# Altium integrated library Maxim Microcontroller.IntLib: 169 symbols (part 1 of 6)
Pins are listed as number, name and electrical type; pins without a type are passive.

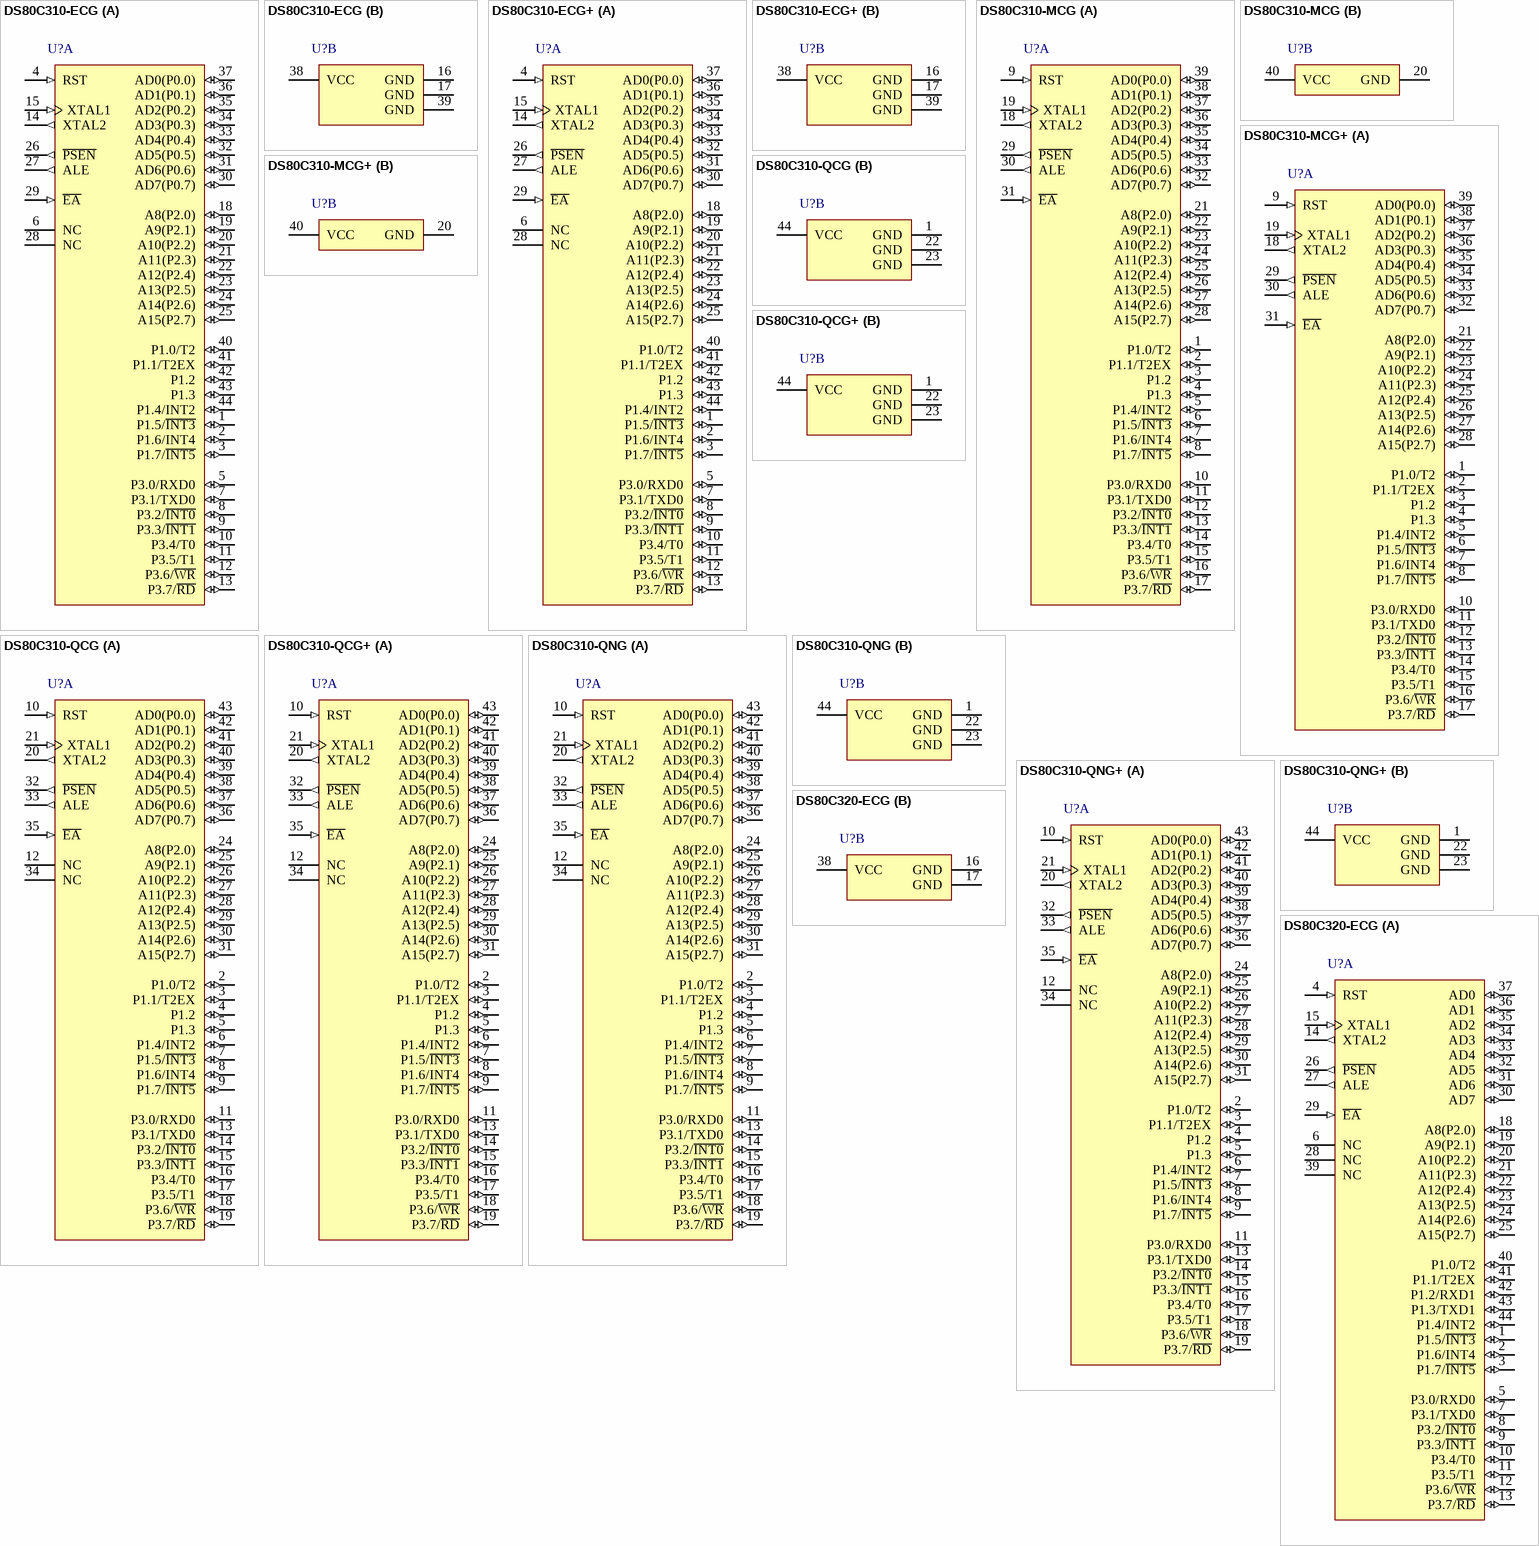
[diagram p0: symbols DS80C310-ECG to DS80C320-ECG]

## DS80C310-ECG
designator U?
8-bit High-Speed Microcontroller, 25 MHz Max. Clock Speed, 44-pin TQFP, 0° to + 70° C; DatasheetVersion: 1/08/2009; PackageVersion: revB, 2010; PackageReference: C44-2; PackageDescription: 44-Pin Thin Quad Flatpack, 10 x 10 x 1.0 mm Body, 0.8 mm Pitch, TQFP; ComponentLink1Description: Manufacturer URL; ComponentLink1URL: www.maxim-ic.com; ComponentLink2Description: Datasheet; ComponentLink2URL: http://datasheets.maxim-ic.com/en/ds/DS80C310.pdf
footprint C44-2_N (Thin QFP, 44-Leads, Body 10x10mm, Pitch 0.8mm, IPC Medium Density)
footprint C44-2_L (Thin QFP, 44-Leads, Body 10x10mm, Pitch 0.8mm, IPC High Density)
footprint C44-2_M (Thin QFP, 44-Leads, Body 10x10mm, Pitch 0.8mm, IPC Low Density)
part A pins: 1 P1.5/~{INT3} (io), 2 P1.6/INT4 (io), 3 P1.7/~{INT5} (io), 4 RST (in), 5 P3.0/RXD0 (io), 6 NC, 7 P3.1/TXD0 (io), 8 P3.2/~{INT0} (io), 9 P3.3/~{INT1} (io), 10 P3.4/T0 (io), 11 P3.5/T1 (io), 12 P3.6/~{WR} (io), 13 P3.7/~{RD} (io), 14 XTAL2 (out), 15 XTAL1 (in), 18 A8(P2.0) (io), 19 A9(P2.1) (io), 20 A10(P2.2) (io), 21 A11(P2.3) (io), 22 A12(P2.4) (io), 23 A13(P2.5) (io), 24 A14(P2.6) (io), 25 A15(P2.7) (io), 26 ~{PSEN} (out), 27 ALE (out), 28 NC, 29 ~{EA} (in), 30 AD7(P0.7) (io), 31 AD6(P0.6) (io), 32 AD5(P0.5) (io), 33 AD4(P0.4) (io), 34 AD3(P0.3) (io), 35 AD2(P0.2) (io), 36 AD1(P0.1) (io), 37 AD0(P0.0) (io), 40 P1.0/T2 (io), 41 P1.1/T2EX (io), 42 P1.2 (io), 43 P1.3 (io), 44 P1.4/INT2 (io)
part B pins: 16 GND (power), 17 GND (power), 38 VCC (power), 39 GND (power)

## DS80C310-ECG+
designator U?
8-bit High-Speed Microcontroller, 25 MHz Max. Clock Speed, 44-pin TQFP, 0° to + 70° C, Pb-Free; DatasheetVersion: 1/08/2009; PackageVersion: revB, 2010; PackageReference: C44+2; PackageDescription: 44-Pin Thin Quad Flatpack, 10 x 10 x 1.0 mm Body, 0.8 mm Pitch, TQFP, Pb-Free; ComponentLink1Description: Manufacturer URL; ComponentLink1URL: www.maxim-ic.com; ComponentLink2Description: Datasheet; ComponentLink2URL: http://datasheets.maxim-ic.com/en/ds/DS80C310.pdf
footprint C44+2_N (Thin QFP, 44-Leads, Body 10x10mm, Pitch 0.8mm, IPC Medium Density)
footprint C44+2_L (Thin QFP, 44-Leads, Body 10x10mm, Pitch 0.8mm, IPC High Density)
footprint C44+2_M (Thin QFP, 44-Leads, Body 10x10mm, Pitch 0.8mm, IPC Low Density)
part A pins: 1 P1.5/~{INT3} (io), 2 P1.6/INT4 (io), 3 P1.7/~{INT5} (io), 4 RST (in), 5 P3.0/RXD0 (io), 6 NC, 7 P3.1/TXD0 (io), 8 P3.2/~{INT0} (io), 9 P3.3/~{INT1} (io), 10 P3.4/T0 (io), 11 P3.5/T1 (io), 12 P3.6/~{WR} (io), 13 P3.7/~{RD} (io), 14 XTAL2 (out), 15 XTAL1 (in), 18 A8(P2.0) (io), 19 A9(P2.1) (io), 20 A10(P2.2) (io), 21 A11(P2.3) (io), 22 A12(P2.4) (io), 23 A13(P2.5) (io), 24 A14(P2.6) (io), 25 A15(P2.7) (io), 26 ~{PSEN} (out), 27 ALE (out), 28 NC, 29 ~{EA} (in), 30 AD7(P0.7) (io), 31 AD6(P0.6) (io), 32 AD5(P0.5) (io), 33 AD4(P0.4) (io), 34 AD3(P0.3) (io), 35 AD2(P0.2) (io), 36 AD1(P0.1) (io), 37 AD0(P0.0) (io), 40 P1.0/T2 (io), 41 P1.1/T2EX (io), 42 P1.2 (io), 43 P1.3 (io), 44 P1.4/INT2 (io)
part B pins: 16 GND (power), 17 GND (power), 38 VCC (power), 39 GND (power)

## DS80C310-MCG
designator U?
8-bit High-Speed Microcontroller, 25 MHz Max. Clock Speed, 40-pin Plastic DIP, 0° to + 70° C; DatasheetVersion: 1/08/2009; PackageVersion: revD, 2011; PackageReference: P40-1; PackageDescription: 40-Pin Plastic Dual-In-Line, 0.6in Wide, PDIP(W); Code_JEDEC: MS-011-AC; ComponentLink1Description: Manufacturer URL; ComponentLink1URL: www.maxim-ic.com; ComponentLink2Description: Datasheet; ComponentLink2URL: http://datasheets.maxim-ic.com/en/ds/DS80C310.pdf
footprint P40-1 (DIP, 40-Leads, Row Spacing 15.24mm, Pitch 2.54mm, Body 52.1x14mm)
part A pins: 1 P1.0/T2 (io), 2 P1.1/T2EX (io), 3 P1.2 (io), 4 P1.3 (io), 5 P1.4/INT2 (io), 6 P1.5/~{INT3} (io), 7 P1.6/INT4 (io), 8 P1.7/~{INT5} (io), 9 RST (in), 10 P3.0/RXD0 (io), 11 P3.1/TXD0 (io), 12 P3.2/~{INT0} (io), 13 P3.3/~{INT1} (io), 14 P3.4/T0 (io), 15 P3.5/T1 (io), 16 P3.6/~{WR} (io), 17 P3.7/~{RD} (io), 18 XTAL2 (out), 19 XTAL1 (in), 21 A8(P2.0) (io), 22 A9(P2.1) (io), 23 A10(P2.2) (io), 24 A11(P2.3) (io), 25 A12(P2.4) (io), 26 A13(P2.5) (io), 27 A14(P2.6) (io), 28 A15(P2.7) (io), 29 ~{PSEN} (out), 30 ALE (out), 31 ~{EA} (in), 32 AD7(P0.7) (io), 33 AD6(P0.6) (io), 34 AD5(P0.5) (io), 35 AD4(P0.4) (io), 36 AD3(P0.3) (io), 37 AD2(P0.2) (io), 38 AD1(P0.1) (io), 39 AD0(P0.0) (io)
part B pins: 20 GND (power), 40 VCC (power)

## DS80C310-MCG+
designator U?
8-bit High-Speed Microcontroller, 25 MHz Max. Clock Speed, 40-pin Plastic DIP, 0° to + 70° C, Pb-Free; DatasheetVersion: 1/08/2009; PackageVersion: revD, 2011; PackageReference: P40+1; PackageDescription: 40-Pin Plastic Dual-In-Line, 0.6in Wide, PDIP(W), Pb-Free; Code_JEDEC: MS-011-AC; ComponentLink1Description: Manufacturer URL; ComponentLink1URL: www.maxim-ic.com; ComponentLink2Description: Datasheet; ComponentLink2URL: http://datasheets.maxim-ic.com/en/ds/DS80C310.pdf
footprint P40+1 (DIP, 40-Leads, Row Spacing 15.24mm, Pitch 2.54mm, Body 52.1x14mm)
part A pins: 1 P1.0/T2 (io), 2 P1.1/T2EX (io), 3 P1.2 (io), 4 P1.3 (io), 5 P1.4/INT2 (io), 6 P1.5/~{INT3} (io), 7 P1.6/INT4 (io), 8 P1.7/~{INT5} (io), 9 RST (in), 10 P3.0/RXD0 (io), 11 P3.1/TXD0 (io), 12 P3.2/~{INT0} (io), 13 P3.3/~{INT1} (io), 14 P3.4/T0 (io), 15 P3.5/T1 (io), 16 P3.6/~{WR} (io), 17 P3.7/~{RD} (io), 18 XTAL2 (out), 19 XTAL1 (in), 21 A8(P2.0) (io), 22 A9(P2.1) (io), 23 A10(P2.2) (io), 24 A11(P2.3) (io), 25 A12(P2.4) (io), 26 A13(P2.5) (io), 27 A14(P2.6) (io), 28 A15(P2.7) (io), 29 ~{PSEN} (out), 30 ALE (out), 31 ~{EA} (in), 32 AD7(P0.7) (io), 33 AD6(P0.6) (io), 34 AD5(P0.5) (io), 35 AD4(P0.4) (io), 36 AD3(P0.3) (io), 37 AD2(P0.2) (io), 38 AD1(P0.1) (io), 39 AD0(P0.0) (io)
part B pins: 20 GND (power), 40 VCC (power)

## DS80C310-QCG
designator U?
8-bit High-Speed Microcontroller, 25 MHz Max. Clock Speed, 44-pin PLCC, 0° to + 70° C; DatasheetVersion: 1/08/2009; PackageVersion: revE, 2009; PackageReference: Q44-1; PackageDescription: 44-Pin Plastic Leaded Chip Carrier 1.27 mm Pitch, PLCC; Code_JEDEC: MO-047-AC; Code_IPC: PLCC-44; ComponentLink1Description: Manufacturer URL; ComponentLink1URL: www.maxim-ic.com; ComponentLink2Description: Datasheet; ComponentLink2URL: http://datasheets.maxim-ic.com/en/ds/DS80C310.pdf
footprint Q44-1_N (Leaded Chip Carrier, 44-Leads, Body 16.6x16.6mm, Pitch 1.27mm, IPC Medium Density)
footprint Q44-1_L (Leaded Chip Carrier, 44-Leads, Body 16.6x16.6mm, Pitch 1.27mm, IPC High Density)
footprint Q44-1_M (Leaded Chip Carrier, 44-Leads, Body 16.6x16.6mm, Pitch 1.27mm, IPC Low Density)
part A pins: 2 P1.0/T2 (io), 3 P1.1/T2EX (io), 4 P1.2 (io), 5 P1.3 (io), 6 P1.4/INT2 (io), 7 P1.5/~{INT3} (io), 8 P1.6/INT4 (io), 9 P1.7/~{INT5} (io), 10 RST (in), 11 P3.0/RXD0 (io), 12 NC, 13 P3.1/TXD0 (io), 14 P3.2/~{INT0} (io), 15 P3.3/~{INT1} (io), 16 P3.4/T0 (io), 17 P3.5/T1 (io), 18 P3.6/~{WR} (io), 19 P3.7/~{RD} (io), 20 XTAL2 (out), 21 XTAL1 (in), 24 A8(P2.0) (io), 25 A9(P2.1) (io), 26 A10(P2.2) (io), 27 A11(P2.3) (io), 28 A12(P2.4) (io), 29 A13(P2.5) (io), 30 A14(P2.6) (io), 31 A15(P2.7) (io), 32 ~{PSEN} (out), 33 ALE (out), 34 NC, 35 ~{EA} (in), 36 AD7(P0.7) (io), 37 AD6(P0.6) (io), 38 AD5(P0.5) (io), 39 AD4(P0.4) (io), 40 AD3(P0.3) (io), 41 AD2(P0.2) (io), 42 AD1(P0.1) (io), 43 AD0(P0.0) (io)
part B pins: 1 GND (power), 22 GND (power), 23 GND (power), 44 VCC (power)

## DS80C310-QCG+
designator U?
8-bit High-Speed Microcontroller, 25 MHz Max. Clock Speed, 44-pin PLCC, 0° to + 70° C, Pb-Free; DatasheetVersion: 1/08/2009; PackageVersion: revE, 2009; PackageReference: Q44+1; PackageDescription: 44-Pin Plastic Leaded Chip Carrier 1.27 mm Pitch, PLCC, Pb-Free; Code_JEDEC: MO-047-AC; Code_IPC: PLCC-44; ComponentLink1Description: Manufacturer URL; ComponentLink1URL: www.maxim-ic.com; ComponentLink2Description: Datasheet; ComponentLink2URL: http://datasheets.maxim-ic.com/en/ds/DS80C310.pdf
footprint Q44+1_N (Leaded Chip Carrier, 44-Leads, Body 16.6x16.6mm, Pitch 1.27mm, IPC Medium Density)
footprint Q44+1_L (Leaded Chip Carrier, 44-Leads, Body 16.6x16.6mm, Pitch 1.27mm, IPC High Density)
footprint Q44+1_M (Leaded Chip Carrier, 44-Leads, Body 16.6x16.6mm, Pitch 1.27mm, IPC Low Density)
part A pins: 2 P1.0/T2 (io), 3 P1.1/T2EX (io), 4 P1.2 (io), 5 P1.3 (io), 6 P1.4/INT2 (io), 7 P1.5/~{INT3} (io), 8 P1.6/INT4 (io), 9 P1.7/~{INT5} (io), 10 RST (in), 11 P3.0/RXD0 (io), 12 NC, 13 P3.1/TXD0 (io), 14 P3.2/~{INT0} (io), 15 P3.3/~{INT1} (io), 16 P3.4/T0 (io), 17 P3.5/T1 (io), 18 P3.6/~{WR} (io), 19 P3.7/~{RD} (io), 20 XTAL2 (out), 21 XTAL1 (in), 24 A8(P2.0) (io), 25 A9(P2.1) (io), 26 A10(P2.2) (io), 27 A11(P2.3) (io), 28 A12(P2.4) (io), 29 A13(P2.5) (io), 30 A14(P2.6) (io), 31 A15(P2.7) (io), 32 ~{PSEN} (out), 33 ALE (out), 34 NC, 35 ~{EA} (in), 36 AD7(P0.7) (io), 37 AD6(P0.6) (io), 38 AD5(P0.5) (io), 39 AD4(P0.4) (io), 40 AD3(P0.3) (io), 41 AD2(P0.2) (io), 42 AD1(P0.1) (io), 43 AD0(P0.0) (io)
part B pins: 1 GND (power), 22 GND (power), 23 GND (power), 44 VCC (power)

## DS80C310-QNG
designator U?
8-bit High-Speed Microcontroller, 25 MHz Max. Clock Speed, 44-pin PLCC, -40° to + 85° C; DatasheetVersion: 1/08/2009; PackageVersion: revE, 2009; PackageReference: Q44-1; PackageDescription: 44-Pin Plastic Leaded Chip Carrier 1.27 mm Pitch, PLCC; Code_JEDEC: MO-047-AC; Code_IPC: PLCC-44; ComponentLink1Description: Manufacturer URL; ComponentLink1URL: www.maxim-ic.com; ComponentLink2Description: Datasheet; ComponentLink2URL: http://datasheets.maxim-ic.com/en/ds/DS80C310.pdf
footprint Q44-1_N (Leaded Chip Carrier, 44-Leads, Body 16.6x16.6mm, Pitch 1.27mm, IPC Medium Density)
footprint Q44-1_L (Leaded Chip Carrier, 44-Leads, Body 16.6x16.6mm, Pitch 1.27mm, IPC High Density)
footprint Q44-1_M (Leaded Chip Carrier, 44-Leads, Body 16.6x16.6mm, Pitch 1.27mm, IPC Low Density)
part A pins: 2 P1.0/T2 (io), 3 P1.1/T2EX (io), 4 P1.2 (io), 5 P1.3 (io), 6 P1.4/INT2 (io), 7 P1.5/~{INT3} (io), 8 P1.6/INT4 (io), 9 P1.7/~{INT5} (io), 10 RST (in), 11 P3.0/RXD0 (io), 12 NC, 13 P3.1/TXD0 (io), 14 P3.2/~{INT0} (io), 15 P3.3/~{INT1} (io), 16 P3.4/T0 (io), 17 P3.5/T1 (io), 18 P3.6/~{WR} (io), 19 P3.7/~{RD} (io), 20 XTAL2 (out), 21 XTAL1 (in), 24 A8(P2.0) (io), 25 A9(P2.1) (io), 26 A10(P2.2) (io), 27 A11(P2.3) (io), 28 A12(P2.4) (io), 29 A13(P2.5) (io), 30 A14(P2.6) (io), 31 A15(P2.7) (io), 32 ~{PSEN} (out), 33 ALE (out), 34 NC, 35 ~{EA} (in), 36 AD7(P0.7) (io), 37 AD6(P0.6) (io), 38 AD5(P0.5) (io), 39 AD4(P0.4) (io), 40 AD3(P0.3) (io), 41 AD2(P0.2) (io), 42 AD1(P0.1) (io), 43 AD0(P0.0) (io)
part B pins: 1 GND (power), 22 GND (power), 23 GND (power), 44 VCC (power)

## DS80C310-QNG+
designator U?
8-bit High-Speed Microcontroller, 25 MHz Max. Clock Speed, 44-pin PLCC, -40° to + 85° C, Pb-Free; DatasheetVersion: 1/08/2009; PackageVersion: revE, 2009; PackageReference: Q44+1; PackageDescription: 44-Pin Plastic Leaded Chip Carrier 1.27 mm Pitch, PLCC, Pb-Free; Code_JEDEC: MO-047-AC; Code_IPC: PLCC-44; ComponentLink1Description: Manufacturer URL; ComponentLink1URL: www.maxim-ic.com; ComponentLink2Description: Datasheet; ComponentLink2URL: http://datasheets.maxim-ic.com/en/ds/DS80C310.pdf
footprint Q44+1_N (Leaded Chip Carrier, 44-Leads, Body 16.6x16.6mm, Pitch 1.27mm, IPC Medium Density)
footprint Q44+1_L (Leaded Chip Carrier, 44-Leads, Body 16.6x16.6mm, Pitch 1.27mm, IPC High Density)
footprint Q44+1_M (Leaded Chip Carrier, 44-Leads, Body 16.6x16.6mm, Pitch 1.27mm, IPC Low Density)
part A pins: 2 P1.0/T2 (io), 3 P1.1/T2EX (io), 4 P1.2 (io), 5 P1.3 (io), 6 P1.4/INT2 (io), 7 P1.5/~{INT3} (io), 8 P1.6/INT4 (io), 9 P1.7/~{INT5} (io), 10 RST (in), 11 P3.0/RXD0 (io), 12 NC, 13 P3.1/TXD0 (io), 14 P3.2/~{INT0} (io), 15 P3.3/~{INT1} (io), 16 P3.4/T0 (io), 17 P3.5/T1 (io), 18 P3.6/~{WR} (io), 19 P3.7/~{RD} (io), 20 XTAL2 (out), 21 XTAL1 (in), 24 A8(P2.0) (io), 25 A9(P2.1) (io), 26 A10(P2.2) (io), 27 A11(P2.3) (io), 28 A12(P2.4) (io), 29 A13(P2.5) (io), 30 A14(P2.6) (io), 31 A15(P2.7) (io), 32 ~{PSEN} (out), 33 ALE (out), 34 NC, 35 ~{EA} (in), 36 AD7(P0.7) (io), 37 AD6(P0.6) (io), 38 AD5(P0.5) (io), 39 AD4(P0.4) (io), 40 AD3(P0.3) (io), 41 AD2(P0.2) (io), 42 AD1(P0.1) (io), 43 AD0(P0.0) (io)
part B pins: 1 GND (power), 22 GND (power), 23 GND (power), 44 VCC (power)

## DS80C320-ECG
designator U?
8-bit High-Speed/Low-Power Microcontroller, 25 MHz Max. Clock Speed, 44-pin TQFP, 0° to + 70° C; DatasheetVersion: 1/05/2009; PackageVersion: revB, 2010; PackageReference: C44-2; PackageDescription: 44-Pin Thin Quad Flatpack, 10 x 10 x 1.0 mm Body, 0.8 mm Pitch, TQFP; ComponentLink1Description: Manufacturer URL; ComponentLink1URL: www.maxim-ic.com; ComponentLink2Description: Datasheet; ComponentLink2URL: http://datasheets.maxim-ic.com/en/ds/DS80C320-DS80C323.pdf
footprint C44-2_N (Thin QFP, 44-Leads, Body 10x10mm, Pitch 0.8mm, IPC Medium Density)
footprint C44-2_L (Thin QFP, 44-Leads, Body 10x10mm, Pitch 0.8mm, IPC High Density)
footprint C44-2_M (Thin QFP, 44-Leads, Body 10x10mm, Pitch 0.8mm, IPC Low Density)
part A pins: 1 P1.5/~{INT3} (io), 2 P1.6/INT4 (io), 3 P1.7/~{INT5} (io), 4 RST (in), 5 P3.0/RXD0 (io), 6 NC, 7 P3.1/TXD0 (io), 8 P3.2/~{INT0} (io), 9 P3.3/~{INT1} (io), 10 P3.4/T0 (io), 11 P3.5/T1 (io), 12 P3.6/~{WR} (io), 13 P3.7/~{RD} (io), 14 XTAL2 (out), 15 XTAL1 (in), 18 A8(P2.0) (io), 19 A9(P2.1) (io), 20 A10(P2.2) (io), 21 A11(P2.3) (io), 22 A12(P2.4) (io), 23 A13(P2.5) (io), 24 A14(P2.6) (io), 25 A15(P2.7) (io), 26 ~{PSEN} (out), 27 ALE (out), 28 NC, 29 ~{EA} (in), 30 AD7 (io), 31 AD6 (io), 32 AD5 (io), 33 AD4 (io), 34 AD3 (io), 35 AD2 (io), 36 AD1 (io), 37 AD0 (io), 39 NC, 40 P1.0/T2 (io), 41 P1.1/T2EX (io), 42 P1.2/RXD1 (io), 43 P1.3/TXD1 (io), 44 P1.4/INT2 (io)
part B pins: 16 GND (power), 17 GND (power), 38 VCC (power)

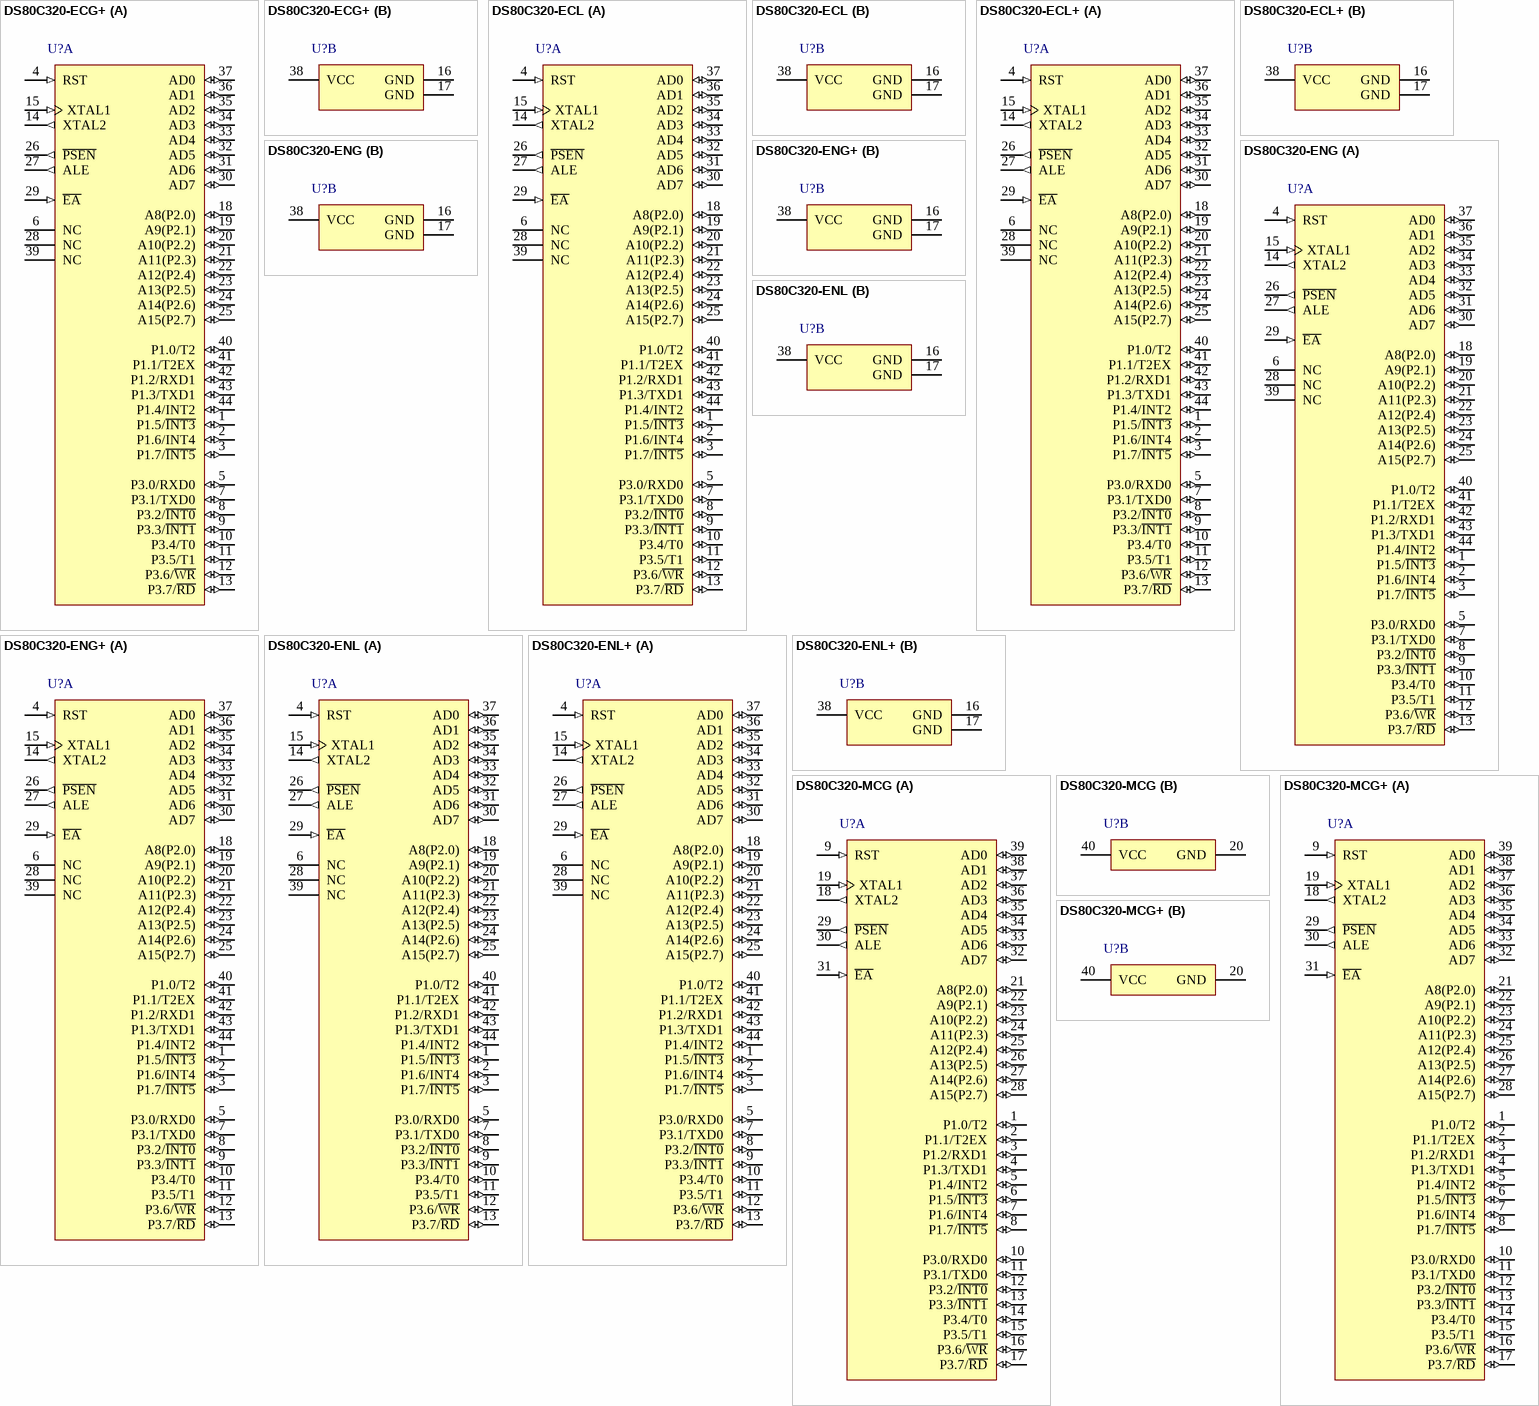
[diagram p1: symbols DS80C320-ECG+ to DS80C320-MCG+]

## DS80C320-ECG+
designator U?
8-bit High-Speed/Low-Power Microcontroller, 25 MHz Max. Clock Speed, 44-pin TQFP, 0° to + 70° C, Pb-Free; DatasheetVersion: 1/05/2009; PackageVersion: revB, 2010; PackageReference: C44+2; PackageDescription: 44-Pin Thin Quad Flatpack, 10 x 10 x 1.0 mm Body, 0.8 mm Pitch, TQFP, Pb-Free; ComponentLink1Description: Manufacturer URL; ComponentLink1URL: www.maxim-ic.com; ComponentLink2Description: Datasheet; ComponentLink2URL: http://datasheets.maxim-ic.com/en/ds/DS80C320-DS80C323.pdf
footprint C44+2_N (Thin QFP, 44-Leads, Body 10x10mm, Pitch 0.8mm, IPC Medium Density)
footprint C44+2_L (Thin QFP, 44-Leads, Body 10x10mm, Pitch 0.8mm, IPC High Density)
footprint C44+2_M (Thin QFP, 44-Leads, Body 10x10mm, Pitch 0.8mm, IPC Low Density)
part A pins: 1 P1.5/~{INT3} (io), 2 P1.6/INT4 (io), 3 P1.7/~{INT5} (io), 4 RST (in), 5 P3.0/RXD0 (io), 6 NC, 7 P3.1/TXD0 (io), 8 P3.2/~{INT0} (io), 9 P3.3/~{INT1} (io), 10 P3.4/T0 (io), 11 P3.5/T1 (io), 12 P3.6/~{WR} (io), 13 P3.7/~{RD} (io), 14 XTAL2 (out), 15 XTAL1 (in), 18 A8(P2.0) (io), 19 A9(P2.1) (io), 20 A10(P2.2) (io), 21 A11(P2.3) (io), 22 A12(P2.4) (io), 23 A13(P2.5) (io), 24 A14(P2.6) (io), 25 A15(P2.7) (io), 26 ~{PSEN} (out), 27 ALE (out), 28 NC, 29 ~{EA} (in), 30 AD7 (io), 31 AD6 (io), 32 AD5 (io), 33 AD4 (io), 34 AD3 (io), 35 AD2 (io), 36 AD1 (io), 37 AD0 (io), 39 NC, 40 P1.0/T2 (io), 41 P1.1/T2EX (io), 42 P1.2/RXD1 (io), 43 P1.3/TXD1 (io), 44 P1.4/INT2 (io)
part B pins: 16 GND (power), 17 GND (power), 38 VCC (power)

## DS80C320-ECL
designator U?
8-bit High-Speed/Low-Power Microcontroller, 33 MHz Max. Clock Speed, 44-pin TQFP, 0° to + 70° C; DatasheetVersion: 1/05/2009; PackageVersion: revB, 2010; PackageReference: C44-2; PackageDescription: 44-Pin Thin Quad Flatpack, 10 x 10 x 1.0 mm Body, 0.8 mm Pitch, TQFP; ComponentLink1Description: Manufacturer URL; ComponentLink1URL: www.maxim-ic.com; ComponentLink2Description: Datasheet; ComponentLink2URL: http://datasheets.maxim-ic.com/en/ds/DS80C320-DS80C323.pdf
footprint C44-2_N (Thin QFP, 44-Leads, Body 10x10mm, Pitch 0.8mm, IPC Medium Density)
footprint C44-2_L (Thin QFP, 44-Leads, Body 10x10mm, Pitch 0.8mm, IPC High Density)
footprint C44-2_M (Thin QFP, 44-Leads, Body 10x10mm, Pitch 0.8mm, IPC Low Density)
part A pins: 1 P1.5/~{INT3} (io), 2 P1.6/INT4 (io), 3 P1.7/~{INT5} (io), 4 RST (in), 5 P3.0/RXD0 (io), 6 NC, 7 P3.1/TXD0 (io), 8 P3.2/~{INT0} (io), 9 P3.3/~{INT1} (io), 10 P3.4/T0 (io), 11 P3.5/T1 (io), 12 P3.6/~{WR} (io), 13 P3.7/~{RD} (io), 14 XTAL2 (out), 15 XTAL1 (in), 18 A8(P2.0) (io), 19 A9(P2.1) (io), 20 A10(P2.2) (io), 21 A11(P2.3) (io), 22 A12(P2.4) (io), 23 A13(P2.5) (io), 24 A14(P2.6) (io), 25 A15(P2.7) (io), 26 ~{PSEN} (out), 27 ALE (out), 28 NC, 29 ~{EA} (in), 30 AD7 (io), 31 AD6 (io), 32 AD5 (io), 33 AD4 (io), 34 AD3 (io), 35 AD2 (io), 36 AD1 (io), 37 AD0 (io), 39 NC, 40 P1.0/T2 (io), 41 P1.1/T2EX (io), 42 P1.2/RXD1 (io), 43 P1.3/TXD1 (io), 44 P1.4/INT2 (io)
part B pins: 16 GND (power), 17 GND (power), 38 VCC (power)

## DS80C320-ECL+
designator U?
8-bit High-Speed/Low-Power Microcontroller, 33 MHz Max. Clock Speed, 44-pin TQFP, 0° to + 70° C, Pb-Free; DatasheetVersion: 1/05/2009; PackageVersion: revB, 2010; PackageReference: C44+2; PackageDescription: 44-Pin Thin Quad Flatpack, 10 x 10 x 1.0 mm Body, 0.8 mm Pitch, TQFP, Pb-Free; ComponentLink1Description: Manufacturer URL; ComponentLink1URL: www.maxim-ic.com; ComponentLink2Description: Datasheet; ComponentLink2URL: http://datasheets.maxim-ic.com/en/ds/DS80C320-DS80C323.pdf
footprint C44+2_N (Thin QFP, 44-Leads, Body 10x10mm, Pitch 0.8mm, IPC Medium Density)
footprint C44+2_L (Thin QFP, 44-Leads, Body 10x10mm, Pitch 0.8mm, IPC High Density)
footprint C44+2_M (Thin QFP, 44-Leads, Body 10x10mm, Pitch 0.8mm, IPC Low Density)
part A pins: 1 P1.5/~{INT3} (io), 2 P1.6/INT4 (io), 3 P1.7/~{INT5} (io), 4 RST (in), 5 P3.0/RXD0 (io), 6 NC, 7 P3.1/TXD0 (io), 8 P3.2/~{INT0} (io), 9 P3.3/~{INT1} (io), 10 P3.4/T0 (io), 11 P3.5/T1 (io), 12 P3.6/~{WR} (io), 13 P3.7/~{RD} (io), 14 XTAL2 (out), 15 XTAL1 (in), 18 A8(P2.0) (io), 19 A9(P2.1) (io), 20 A10(P2.2) (io), 21 A11(P2.3) (io), 22 A12(P2.4) (io), 23 A13(P2.5) (io), 24 A14(P2.6) (io), 25 A15(P2.7) (io), 26 ~{PSEN} (out), 27 ALE (out), 28 NC, 29 ~{EA} (in), 30 AD7 (io), 31 AD6 (io), 32 AD5 (io), 33 AD4 (io), 34 AD3 (io), 35 AD2 (io), 36 AD1 (io), 37 AD0 (io), 39 NC, 40 P1.0/T2 (io), 41 P1.1/T2EX (io), 42 P1.2/RXD1 (io), 43 P1.3/TXD1 (io), 44 P1.4/INT2 (io)
part B pins: 16 GND (power), 17 GND (power), 38 VCC (power)

## DS80C320-ENG
designator U?
8-bit High-Speed/Low-Power Microcontroller, 25 MHz Max. Clock Speed, 44-pin TQFP, -40° to + 85° C; DatasheetVersion: 1/05/2009; PackageVersion: revB, 2010; PackageReference: C44-2; PackageDescription: 44-Pin Thin Quad Flatpack, 10 x 10 x 1.0 mm Body, 0.8 mm Pitch, TQFP; ComponentLink1Description: Manufacturer URL; ComponentLink1URL: www.maxim-ic.com; ComponentLink2Description: Datasheet; ComponentLink2URL: http://datasheets.maxim-ic.com/en/ds/DS80C320-DS80C323.pdf
footprint C44-2_N (Thin QFP, 44-Leads, Body 10x10mm, Pitch 0.8mm, IPC Medium Density)
footprint C44-2_L (Thin QFP, 44-Leads, Body 10x10mm, Pitch 0.8mm, IPC High Density)
footprint C44-2_M (Thin QFP, 44-Leads, Body 10x10mm, Pitch 0.8mm, IPC Low Density)
part A pins: 1 P1.5/~{INT3} (io), 2 P1.6/INT4 (io), 3 P1.7/~{INT5} (io), 4 RST (in), 5 P3.0/RXD0 (io), 6 NC, 7 P3.1/TXD0 (io), 8 P3.2/~{INT0} (io), 9 P3.3/~{INT1} (io), 10 P3.4/T0 (io), 11 P3.5/T1 (io), 12 P3.6/~{WR} (io), 13 P3.7/~{RD} (io), 14 XTAL2 (out), 15 XTAL1 (in), 18 A8(P2.0) (io), 19 A9(P2.1) (io), 20 A10(P2.2) (io), 21 A11(P2.3) (io), 22 A12(P2.4) (io), 23 A13(P2.5) (io), 24 A14(P2.6) (io), 25 A15(P2.7) (io), 26 ~{PSEN} (out), 27 ALE (out), 28 NC, 29 ~{EA} (in), 30 AD7 (io), 31 AD6 (io), 32 AD5 (io), 33 AD4 (io), 34 AD3 (io), 35 AD2 (io), 36 AD1 (io), 37 AD0 (io), 39 NC, 40 P1.0/T2 (io), 41 P1.1/T2EX (io), 42 P1.2/RXD1 (io), 43 P1.3/TXD1 (io), 44 P1.4/INT2 (io)
part B pins: 16 GND (power), 17 GND (power), 38 VCC (power)

## DS80C320-ENG+
designator U?
8-bit High-Speed/Low-Power Microcontroller, 25 MHz Max. Clock Speed, 44-pin TQFP, -40° to + 85° C, Pb-Free; DatasheetVersion: 1/05/2009; PackageVersion: revB, 2010; PackageReference: C44+2; PackageDescription: 44-Pin Thin Quad Flatpack, 10 x 10 x 1.0 mm Body, 0.8 mm Pitch, TQFP, Pb-Free; ComponentLink1Description: Manufacturer URL; ComponentLink1URL: www.maxim-ic.com; ComponentLink2Description: Datasheet; ComponentLink2URL: http://datasheets.maxim-ic.com/en/ds/DS80C320-DS80C323.pdf
footprint C44+2_N (Thin QFP, 44-Leads, Body 10x10mm, Pitch 0.8mm, IPC Medium Density)
footprint C44+2_L (Thin QFP, 44-Leads, Body 10x10mm, Pitch 0.8mm, IPC High Density)
footprint C44+2_M (Thin QFP, 44-Leads, Body 10x10mm, Pitch 0.8mm, IPC Low Density)
part A pins: 1 P1.5/~{INT3} (io), 2 P1.6/INT4 (io), 3 P1.7/~{INT5} (io), 4 RST (in), 5 P3.0/RXD0 (io), 6 NC, 7 P3.1/TXD0 (io), 8 P3.2/~{INT0} (io), 9 P3.3/~{INT1} (io), 10 P3.4/T0 (io), 11 P3.5/T1 (io), 12 P3.6/~{WR} (io), 13 P3.7/~{RD} (io), 14 XTAL2 (out), 15 XTAL1 (in), 18 A8(P2.0) (io), 19 A9(P2.1) (io), 20 A10(P2.2) (io), 21 A11(P2.3) (io), 22 A12(P2.4) (io), 23 A13(P2.5) (io), 24 A14(P2.6) (io), 25 A15(P2.7) (io), 26 ~{PSEN} (out), 27 ALE (out), 28 NC, 29 ~{EA} (in), 30 AD7 (io), 31 AD6 (io), 32 AD5 (io), 33 AD4 (io), 34 AD3 (io), 35 AD2 (io), 36 AD1 (io), 37 AD0 (io), 39 NC, 40 P1.0/T2 (io), 41 P1.1/T2EX (io), 42 P1.2/RXD1 (io), 43 P1.3/TXD1 (io), 44 P1.4/INT2 (io)
part B pins: 16 GND (power), 17 GND (power), 38 VCC (power)

## DS80C320-ENL
designator U?
8-bit High-Speed/Low-Power Microcontroller, 33 MHz Max. Clock Speed, 44-pin TQFP, -40° to + 85° C; DatasheetVersion: 1/05/2009; PackageVersion: revB, 2010; PackageReference: C44-2; PackageDescription: 44-Pin Thin Quad Flatpack, 10 x 10 x 1.0 mm Body, 0.8 mm Pitch, TQFP; ComponentLink1Description: Manufacturer URL; ComponentLink1URL: www.maxim-ic.com; ComponentLink2Description: Datasheet; ComponentLink2URL: http://datasheets.maxim-ic.com/en/ds/DS80C320-DS80C323.pdf
footprint C44-2_N (Thin QFP, 44-Leads, Body 10x10mm, Pitch 0.8mm, IPC Medium Density)
footprint C44-2_L (Thin QFP, 44-Leads, Body 10x10mm, Pitch 0.8mm, IPC High Density)
footprint C44-2_M (Thin QFP, 44-Leads, Body 10x10mm, Pitch 0.8mm, IPC Low Density)
part A pins: 1 P1.5/~{INT3} (io), 2 P1.6/INT4 (io), 3 P1.7/~{INT5} (io), 4 RST (in), 5 P3.0/RXD0 (io), 6 NC, 7 P3.1/TXD0 (io), 8 P3.2/~{INT0} (io), 9 P3.3/~{INT1} (io), 10 P3.4/T0 (io), 11 P3.5/T1 (io), 12 P3.6/~{WR} (io), 13 P3.7/~{RD} (io), 14 XTAL2 (out), 15 XTAL1 (in), 18 A8(P2.0) (io), 19 A9(P2.1) (io), 20 A10(P2.2) (io), 21 A11(P2.3) (io), 22 A12(P2.4) (io), 23 A13(P2.5) (io), 24 A14(P2.6) (io), 25 A15(P2.7) (io), 26 ~{PSEN} (out), 27 ALE (out), 28 NC, 29 ~{EA} (in), 30 AD7 (io), 31 AD6 (io), 32 AD5 (io), 33 AD4 (io), 34 AD3 (io), 35 AD2 (io), 36 AD1 (io), 37 AD0 (io), 39 NC, 40 P1.0/T2 (io), 41 P1.1/T2EX (io), 42 P1.2/RXD1 (io), 43 P1.3/TXD1 (io), 44 P1.4/INT2 (io)
part B pins: 16 GND (power), 17 GND (power), 38 VCC (power)

## DS80C320-ENL+
designator U?
8-bit High-Speed/Low-Power Microcontroller, 33 MHz Max. Clock Speed, 44-pin TQFP, -40° to + 85° C, Pb-Free; DatasheetVersion: 1/05/2009; PackageVersion: revB, 2010; PackageReference: C44+2; PackageDescription: 44-Pin Thin Quad Flatpack, 10 x 10 x 1.0 mm Body, 0.8 mm Pitch, TQFP, Pb-Free; ComponentLink1Description: Manufacturer URL; ComponentLink1URL: www.maxim-ic.com; ComponentLink2Description: Datasheet; ComponentLink2URL: http://datasheets.maxim-ic.com/en/ds/DS80C320-DS80C323.pdf
footprint C44+2_N (Thin QFP, 44-Leads, Body 10x10mm, Pitch 0.8mm, IPC Medium Density)
footprint C44+2_L (Thin QFP, 44-Leads, Body 10x10mm, Pitch 0.8mm, IPC High Density)
footprint C44+2_M (Thin QFP, 44-Leads, Body 10x10mm, Pitch 0.8mm, IPC Low Density)
part A pins: 1 P1.5/~{INT3} (io), 2 P1.6/INT4 (io), 3 P1.7/~{INT5} (io), 4 RST (in), 5 P3.0/RXD0 (io), 6 NC, 7 P3.1/TXD0 (io), 8 P3.2/~{INT0} (io), 9 P3.3/~{INT1} (io), 10 P3.4/T0 (io), 11 P3.5/T1 (io), 12 P3.6/~{WR} (io), 13 P3.7/~{RD} (io), 14 XTAL2 (out), 15 XTAL1 (in), 18 A8(P2.0) (io), 19 A9(P2.1) (io), 20 A10(P2.2) (io), 21 A11(P2.3) (io), 22 A12(P2.4) (io), 23 A13(P2.5) (io), 24 A14(P2.6) (io), 25 A15(P2.7) (io), 26 ~{PSEN} (out), 27 ALE (out), 28 NC, 29 ~{EA} (in), 30 AD7 (io), 31 AD6 (io), 32 AD5 (io), 33 AD4 (io), 34 AD3 (io), 35 AD2 (io), 36 AD1 (io), 37 AD0 (io), 39 NC, 40 P1.0/T2 (io), 41 P1.1/T2EX (io), 42 P1.2/RXD1 (io), 43 P1.3/TXD1 (io), 44 P1.4/INT2 (io)
part B pins: 16 GND (power), 17 GND (power), 38 VCC (power)

## DS80C320-MCG
designator U?
8-bit High-Speed/Low-Power Microcontroller, 25 MHz Max. Clock Speed, 40-pin Plastic DIP, 0° to + 70° C; DatasheetVersion: 1/05/2009; PackageVersion: revD, 2011; PackageReference: P40-1; PackageDescription: 40-Pin Plastic Dual-In-Line, 0.6in Wide, PDIP(W); Code_JEDEC: MS-011-AC; ComponentLink1Description: Manufacturer URL; ComponentLink1URL: www.maxim-ic.com; ComponentLink2Description: Datasheet; ComponentLink2URL: http://datasheets.maxim-ic.com/en/ds/DS80C320-DS80C323.pdf
footprint P40-1 (DIP, 40-Leads, Row Spacing 15.24mm, Pitch 2.54mm, Body 52.1x14mm)
part A pins: 1 P1.0/T2 (io), 2 P1.1/T2EX (io), 3 P1.2/RXD1 (io), 4 P1.3/TXD1 (io), 5 P1.4/INT2 (io), 6 P1.5/~{INT3} (io), 7 P1.6/INT4 (io), 8 P1.7/~{INT5} (io), 9 RST (in), 10 P3.0/RXD0 (io), 11 P3.1/TXD0 (io), 12 P3.2/~{INT0} (io), 13 P3.3/~{INT1} (io), 14 P3.4/T0 (io), 15 P3.5/T1 (io), 16 P3.6/~{WR} (io), 17 P3.7/~{RD} (io), 18 XTAL2 (out), 19 XTAL1 (in), 21 A8(P2.0) (io), 22 A9(P2.1) (io), 23 A10(P2.2) (io), 24 A11(P2.3) (io), 25 A12(P2.4) (io), 26 A13(P2.5) (io), 27 A14(P2.6) (io), 28 A15(P2.7) (io), 29 ~{PSEN} (out), 30 ALE (out), 31 ~{EA} (in), 32 AD7 (io), 33 AD6 (io), 34 AD5 (io), 35 AD4 (io), 36 AD3 (io), 37 AD2 (io), 38 AD1 (io), 39 AD0 (io)
part B pins: 20 GND (power), 40 VCC (power)

## DS80C320-MCG+
designator U?
8-bit High-Speed/Low-Power Microcontroller, 25 MHz Max. Clock Speed, 40-pin Plastic DIP, 0° to + 70° C, Pb-Free; DatasheetVersion: 1/05/2009; PackageVersion: revD, 2011; PackageReference: P40+1; PackageDescription: 40-Pin Plastic Dual-In-Line, 0.6in Wide, PDIP(W), Pb-Free; Code_JEDEC: MS-011-AC; ComponentLink1Description: Manufacturer URL; ComponentLink1URL: www.maxim-ic.com; ComponentLink2Description: Datasheet; ComponentLink2URL: http://datasheets.maxim-ic.com/en/ds/DS80C320-DS80C323.pdf
footprint P40+1 (DIP, 40-Leads, Row Spacing 15.24mm, Pitch 2.54mm, Body 52.1x14mm)
part A pins: 1 P1.0/T2 (io), 2 P1.1/T2EX (io), 3 P1.2/RXD1 (io), 4 P1.3/TXD1 (io), 5 P1.4/INT2 (io), 6 P1.5/~{INT3} (io), 7 P1.6/INT4 (io), 8 P1.7/~{INT5} (io), 9 RST (in), 10 P3.0/RXD0 (io), 11 P3.1/TXD0 (io), 12 P3.2/~{INT0} (io), 13 P3.3/~{INT1} (io), 14 P3.4/T0 (io), 15 P3.5/T1 (io), 16 P3.6/~{WR} (io), 17 P3.7/~{RD} (io), 18 XTAL2 (out), 19 XTAL1 (in), 21 A8(P2.0) (io), 22 A9(P2.1) (io), 23 A10(P2.2) (io), 24 A11(P2.3) (io), 25 A12(P2.4) (io), 26 A13(P2.5) (io), 27 A14(P2.6) (io), 28 A15(P2.7) (io), 29 ~{PSEN} (out), 30 ALE (out), 31 ~{EA} (in), 32 AD7 (io), 33 AD6 (io), 34 AD5 (io), 35 AD4 (io), 36 AD3 (io), 37 AD2 (io), 38 AD1 (io), 39 AD0 (io)
part B pins: 20 GND (power), 40 VCC (power)

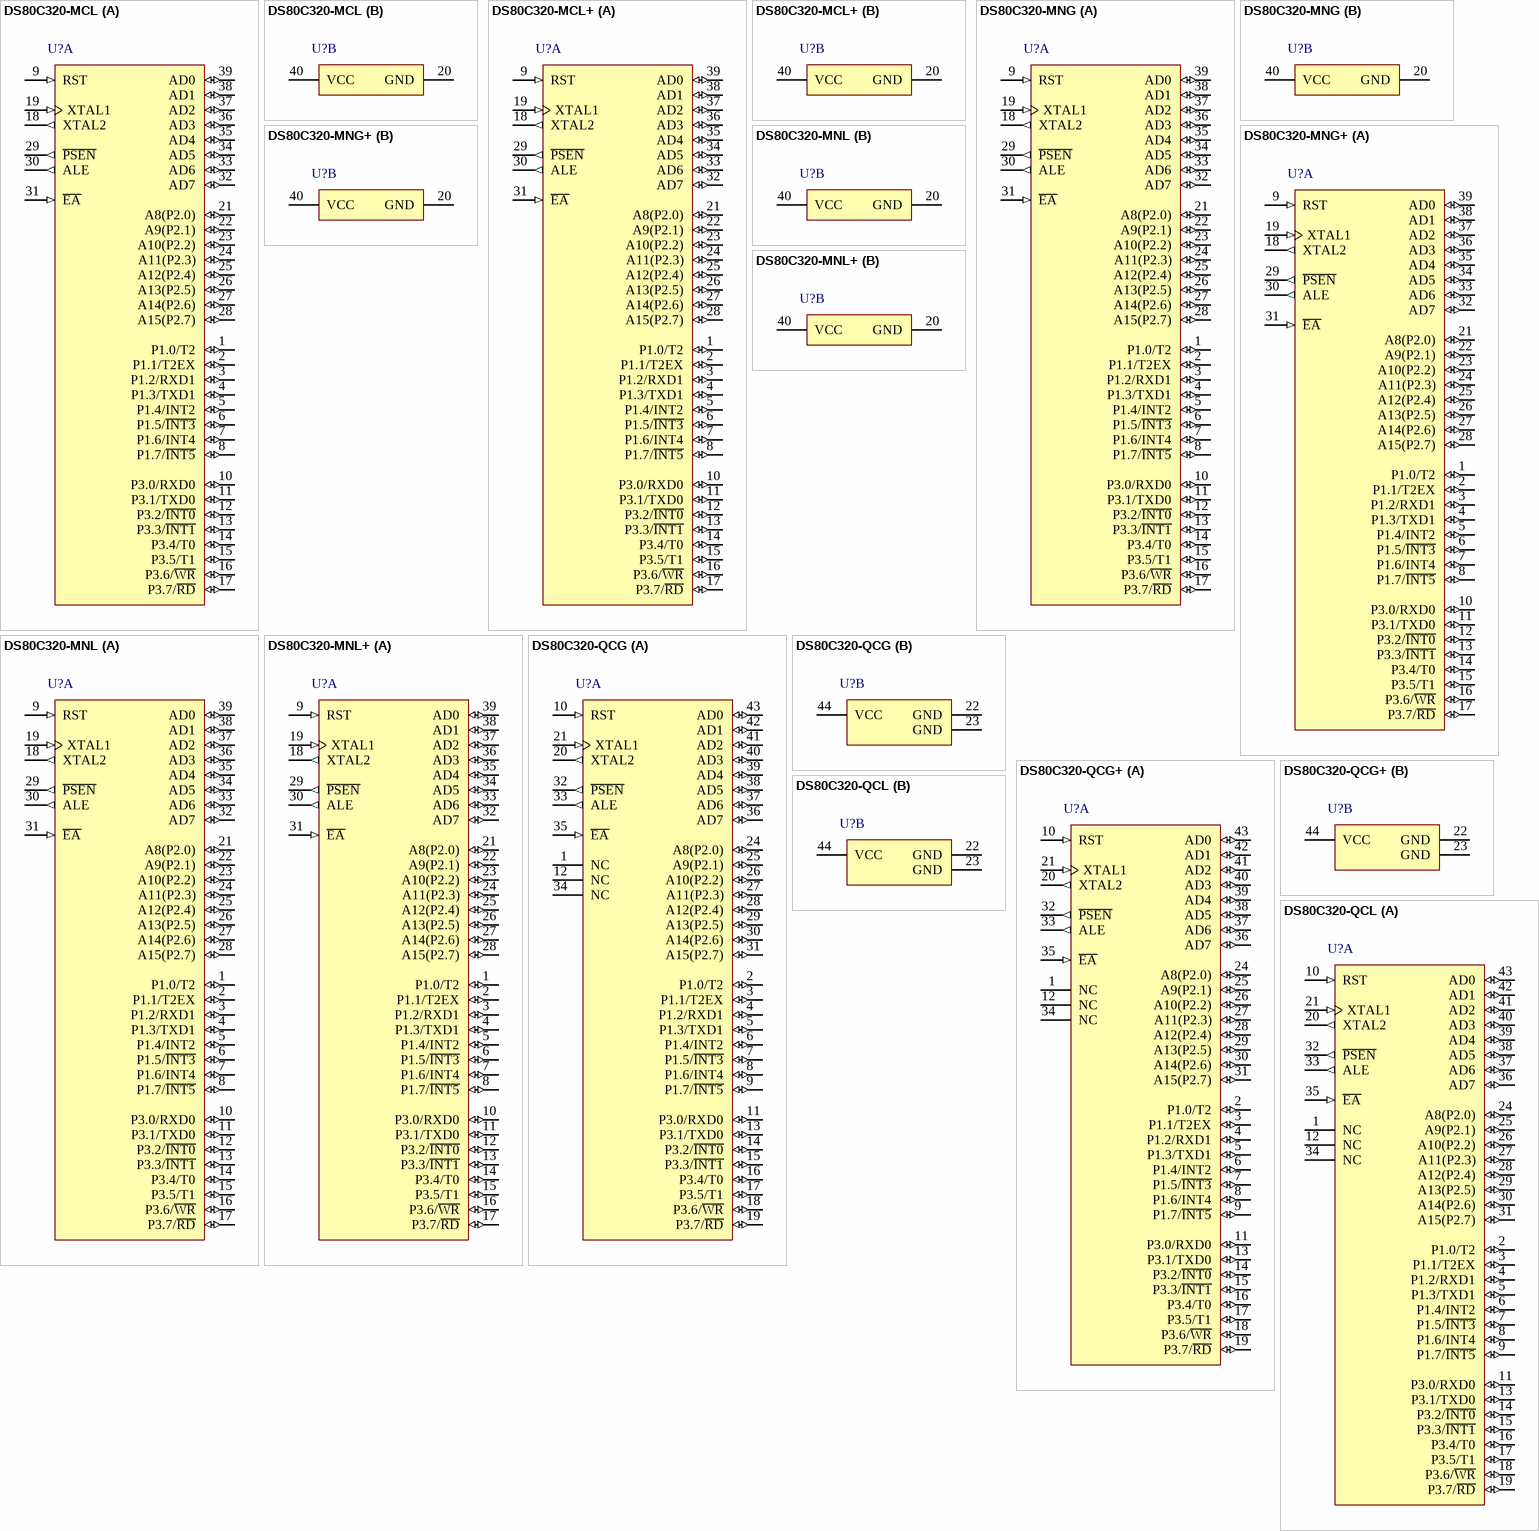
[diagram p2: symbols DS80C320-MCL to DS80C320-QCL]

## DS80C320-MCL
designator U?
8-bit High-Speed/Low-Power Microcontroller, 33 MHz Max. Clock Speed, 40-pin Plastic DIP, 0° to + 70° C; DatasheetVersion: 1/05/2009; PackageVersion: revD, 2011; PackageReference: P40-1; PackageDescription: 40-Pin Plastic Dual-In-Line, 0.6in Wide, PDIP(W); Code_JEDEC: MS-011-AC; ComponentLink1Description: Manufacturer URL; ComponentLink1URL: www.maxim-ic.com; ComponentLink2Description: Datasheet; ComponentLink2URL: http://datasheets.maxim-ic.com/en/ds/DS80C320-DS80C323.pdf
footprint P40-1 (DIP, 40-Leads, Row Spacing 15.24mm, Pitch 2.54mm, Body 52.1x14mm)
part A pins: 1 P1.0/T2 (io), 2 P1.1/T2EX (io), 3 P1.2/RXD1 (io), 4 P1.3/TXD1 (io), 5 P1.4/INT2 (io), 6 P1.5/~{INT3} (io), 7 P1.6/INT4 (io), 8 P1.7/~{INT5} (io), 9 RST (in), 10 P3.0/RXD0 (io), 11 P3.1/TXD0 (io), 12 P3.2/~{INT0} (io), 13 P3.3/~{INT1} (io), 14 P3.4/T0 (io), 15 P3.5/T1 (io), 16 P3.6/~{WR} (io), 17 P3.7/~{RD} (io), 18 XTAL2 (out), 19 XTAL1 (in), 21 A8(P2.0) (io), 22 A9(P2.1) (io), 23 A10(P2.2) (io), 24 A11(P2.3) (io), 25 A12(P2.4) (io), 26 A13(P2.5) (io), 27 A14(P2.6) (io), 28 A15(P2.7) (io), 29 ~{PSEN} (out), 30 ALE (out), 31 ~{EA} (in), 32 AD7 (io), 33 AD6 (io), 34 AD5 (io), 35 AD4 (io), 36 AD3 (io), 37 AD2 (io), 38 AD1 (io), 39 AD0 (io)
part B pins: 20 GND (power), 40 VCC (power)

## DS80C320-MCL+
designator U?
8-bit High-Speed/Low-Power Microcontroller, 33 MHz Max. Clock Speed, 40-pin Plastic DIP, 0° to + 70° C, Pb-Free; DatasheetVersion: 1/05/2009; PackageVersion: revD, 2011; PackageReference: P40+1; PackageDescription: 40-Pin Plastic Dual-In-Line, 0.6in Wide, PDIP(W), Pb-Free; Code_JEDEC: MS-011-AC; ComponentLink1Description: Manufacturer URL; ComponentLink1URL: www.maxim-ic.com; ComponentLink2Description: Datasheet; ComponentLink2URL: http://datasheets.maxim-ic.com/en/ds/DS80C320-DS80C323.pdf
footprint P40+1 (DIP, 40-Leads, Row Spacing 15.24mm, Pitch 2.54mm, Body 52.1x14mm)
part A pins: 1 P1.0/T2 (io), 2 P1.1/T2EX (io), 3 P1.2/RXD1 (io), 4 P1.3/TXD1 (io), 5 P1.4/INT2 (io), 6 P1.5/~{INT3} (io), 7 P1.6/INT4 (io), 8 P1.7/~{INT5} (io), 9 RST (in), 10 P3.0/RXD0 (io), 11 P3.1/TXD0 (io), 12 P3.2/~{INT0} (io), 13 P3.3/~{INT1} (io), 14 P3.4/T0 (io), 15 P3.5/T1 (io), 16 P3.6/~{WR} (io), 17 P3.7/~{RD} (io), 18 XTAL2 (out), 19 XTAL1 (in), 21 A8(P2.0) (io), 22 A9(P2.1) (io), 23 A10(P2.2) (io), 24 A11(P2.3) (io), 25 A12(P2.4) (io), 26 A13(P2.5) (io), 27 A14(P2.6) (io), 28 A15(P2.7) (io), 29 ~{PSEN} (out), 30 ALE (out), 31 ~{EA} (in), 32 AD7 (io), 33 AD6 (io), 34 AD5 (io), 35 AD4 (io), 36 AD3 (io), 37 AD2 (io), 38 AD1 (io), 39 AD0 (io)
part B pins: 20 GND (power), 40 VCC (power)

## DS80C320-MNG
designator U?
8-bit High-Speed/Low-Power Microcontroller, 25 MHz Max. Clock Speed, 40-pin Plastic DIP, -40° to + 85° C; DatasheetVersion: 1/05/2009; PackageVersion: revD, 2011; PackageReference: P40-1; PackageDescription: 40-Pin Plastic Dual-In-Line, 0.6in Wide, PDIP(W); Code_JEDEC: MS-011-AC; ComponentLink1Description: Manufacturer URL; ComponentLink1URL: www.maxim-ic.com; ComponentLink2Description: Datasheet; ComponentLink2URL: http://datasheets.maxim-ic.com/en/ds/DS80C320-DS80C323.pdf
footprint P40-1 (DIP, 40-Leads, Row Spacing 15.24mm, Pitch 2.54mm, Body 52.1x14mm)
part A pins: 1 P1.0/T2 (io), 2 P1.1/T2EX (io), 3 P1.2/RXD1 (io), 4 P1.3/TXD1 (io), 5 P1.4/INT2 (io), 6 P1.5/~{INT3} (io), 7 P1.6/INT4 (io), 8 P1.7/~{INT5} (io), 9 RST (in), 10 P3.0/RXD0 (io), 11 P3.1/TXD0 (io), 12 P3.2/~{INT0} (io), 13 P3.3/~{INT1} (io), 14 P3.4/T0 (io), 15 P3.5/T1 (io), 16 P3.6/~{WR} (io), 17 P3.7/~{RD} (io), 18 XTAL2 (out), 19 XTAL1 (in), 21 A8(P2.0) (io), 22 A9(P2.1) (io), 23 A10(P2.2) (io), 24 A11(P2.3) (io), 25 A12(P2.4) (io), 26 A13(P2.5) (io), 27 A14(P2.6) (io), 28 A15(P2.7) (io), 29 ~{PSEN} (out), 30 ALE (out), 31 ~{EA} (in), 32 AD7 (io), 33 AD6 (io), 34 AD5 (io), 35 AD4 (io), 36 AD3 (io), 37 AD2 (io), 38 AD1 (io), 39 AD0 (io)
part B pins: 20 GND (power), 40 VCC (power)

## DS80C320-MNG+
designator U?
8-bit High-Speed/Low-Power Microcontroller, 25 MHz Max. Clock Speed, 40-pin Plastic DIP, -40° to + 85° C, Pb-Free; DatasheetVersion: 1/05/2009; PackageVersion: revD, 2011; PackageReference: P40+1; PackageDescription: 40-Pin Plastic Dual-In-Line, 0.6in Wide, PDIP(W), Pb-Free; Code_JEDEC: MS-011-AC; ComponentLink1Description: Manufacturer URL; ComponentLink1URL: www.maxim-ic.com; ComponentLink2Description: Datasheet; ComponentLink2URL: http://datasheets.maxim-ic.com/en/ds/DS80C320-DS80C323.pdf
footprint P40+1 (DIP, 40-Leads, Row Spacing 15.24mm, Pitch 2.54mm, Body 52.1x14mm)
part A pins: 1 P1.0/T2 (io), 2 P1.1/T2EX (io), 3 P1.2/RXD1 (io), 4 P1.3/TXD1 (io), 5 P1.4/INT2 (io), 6 P1.5/~{INT3} (io), 7 P1.6/INT4 (io), 8 P1.7/~{INT5} (io), 9 RST (in), 10 P3.0/RXD0 (io), 11 P3.1/TXD0 (io), 12 P3.2/~{INT0} (io), 13 P3.3/~{INT1} (io), 14 P3.4/T0 (io), 15 P3.5/T1 (io), 16 P3.6/~{WR} (io), 17 P3.7/~{RD} (io), 18 XTAL2 (out), 19 XTAL1 (in), 21 A8(P2.0) (io), 22 A9(P2.1) (io), 23 A10(P2.2) (io), 24 A11(P2.3) (io), 25 A12(P2.4) (io), 26 A13(P2.5) (io), 27 A14(P2.6) (io), 28 A15(P2.7) (io), 29 ~{PSEN} (out), 30 ALE (out), 31 ~{EA} (in), 32 AD7 (io), 33 AD6 (io), 34 AD5 (io), 35 AD4 (io), 36 AD3 (io), 37 AD2 (io), 38 AD1 (io), 39 AD0 (io)
part B pins: 20 GND (power), 40 VCC (power)

## DS80C320-MNL
designator U?
8-bit High-Speed/Low-Power Microcontroller, 33 MHz Max. Clock Speed, 40-pin Plastic DIP, -40° to + 85° C; DatasheetVersion: 1/05/2009; PackageVersion: revD, 2011; PackageReference: P40-1; PackageDescription: 40-Pin Plastic Dual-In-Line, 0.6in Wide, PDIP(W); Code_JEDEC: MS-011-AC; ComponentLink1Description: Manufacturer URL; ComponentLink1URL: www.maxim-ic.com; ComponentLink2Description: Datasheet; ComponentLink2URL: http://datasheets.maxim-ic.com/en/ds/DS80C320-DS80C323.pdf
footprint P40-1 (DIP, 40-Leads, Row Spacing 15.24mm, Pitch 2.54mm, Body 52.1x14mm)
part A pins: 1 P1.0/T2 (io), 2 P1.1/T2EX (io), 3 P1.2/RXD1 (io), 4 P1.3/TXD1 (io), 5 P1.4/INT2 (io), 6 P1.5/~{INT3} (io), 7 P1.6/INT4 (io), 8 P1.7/~{INT5} (io), 9 RST (in), 10 P3.0/RXD0 (io), 11 P3.1/TXD0 (io), 12 P3.2/~{INT0} (io), 13 P3.3/~{INT1} (io), 14 P3.4/T0 (io), 15 P3.5/T1 (io), 16 P3.6/~{WR} (io), 17 P3.7/~{RD} (io), 18 XTAL2 (out), 19 XTAL1 (in), 21 A8(P2.0) (io), 22 A9(P2.1) (io), 23 A10(P2.2) (io), 24 A11(P2.3) (io), 25 A12(P2.4) (io), 26 A13(P2.5) (io), 27 A14(P2.6) (io), 28 A15(P2.7) (io), 29 ~{PSEN} (out), 30 ALE (out), 31 ~{EA} (in), 32 AD7 (io), 33 AD6 (io), 34 AD5 (io), 35 AD4 (io), 36 AD3 (io), 37 AD2 (io), 38 AD1 (io), 39 AD0 (io)
part B pins: 20 GND (power), 40 VCC (power)

## DS80C320-MNL+
designator U?
8-bit High-Speed/Low-Power Microcontroller, 33 MHz Max. Clock Speed, 40-pin Plastic DIP, -40° to + 85° C, Pb-Free; DatasheetVersion: 1/05/2009; PackageVersion: revD, 2011; PackageReference: P40+1; PackageDescription: 40-Pin Plastic Dual-In-Line, 0.6in Wide, PDIP(W), Pb-Free; Code_JEDEC: MS-011-AC; ComponentLink1Description: Manufacturer URL; ComponentLink1URL: www.maxim-ic.com; ComponentLink2Description: Datasheet; ComponentLink2URL: http://datasheets.maxim-ic.com/en/ds/DS80C320-DS80C323.pdf
footprint P40+1 (DIP, 40-Leads, Row Spacing 15.24mm, Pitch 2.54mm, Body 52.1x14mm)
part A pins: 1 P1.0/T2 (io), 2 P1.1/T2EX (io), 3 P1.2/RXD1 (io), 4 P1.3/TXD1 (io), 5 P1.4/INT2 (io), 6 P1.5/~{INT3} (io), 7 P1.6/INT4 (io), 8 P1.7/~{INT5} (io), 9 RST (in), 10 P3.0/RXD0 (io), 11 P3.1/TXD0 (io), 12 P3.2/~{INT0} (io), 13 P3.3/~{INT1} (io), 14 P3.4/T0 (io), 15 P3.5/T1 (io), 16 P3.6/~{WR} (io), 17 P3.7/~{RD} (io), 18 XTAL2 (out), 19 XTAL1 (in), 21 A8(P2.0) (io), 22 A9(P2.1) (io), 23 A10(P2.2) (io), 24 A11(P2.3) (io), 25 A12(P2.4) (io), 26 A13(P2.5) (io), 27 A14(P2.6) (io), 28 A15(P2.7) (io), 29 ~{PSEN} (out), 30 ALE (out), 31 ~{EA} (in), 32 AD7 (io), 33 AD6 (io), 34 AD5 (io), 35 AD4 (io), 36 AD3 (io), 37 AD2 (io), 38 AD1 (io), 39 AD0 (io)
part B pins: 20 GND (power), 40 VCC (power)

## DS80C320-QCG
designator U?
8-bit High-Speed/Low-Power Microcontroller, 25 MHz Max. Clock Speed, 44-pin PLCC, 0° to + 70° C; DatasheetVersion: 1/05/2009; PackageVersion: revE, 2009; PackageReference: Q44-1; PackageDescription: 44-Pin Plastic Leaded Chip Carrier 1.27 mm Pitch, PLCC; Code_JEDEC: MO-047-AC; Code_IPC: PLCC-44; ComponentLink1Description: Manufacturer URL; ComponentLink1URL: www.maxim-ic.com; ComponentLink2Description: Datasheet; ComponentLink2URL: http://datasheets.maxim-ic.com/en/ds/DS80C320-DS80C323.pdf
footprint Q44-1_N (Leaded Chip Carrier, 44-Leads, Body 16.6x16.6mm, Pitch 1.27mm, IPC Medium Density)
footprint Q44-1_L (Leaded Chip Carrier, 44-Leads, Body 16.6x16.6mm, Pitch 1.27mm, IPC High Density)
footprint Q44-1_M (Leaded Chip Carrier, 44-Leads, Body 16.6x16.6mm, Pitch 1.27mm, IPC Low Density)
part A pins: 1 NC, 2 P1.0/T2 (io), 3 P1.1/T2EX (io), 4 P1.2/RXD1 (io), 5 P1.3/TXD1 (io), 6 P1.4/INT2 (io), 7 P1.5/~{INT3} (io), 8 P1.6/INT4 (io), 9 P1.7/~{INT5} (io), 10 RST (in), 11 P3.0/RXD0 (io), 12 NC, 13 P3.1/TXD0 (io), 14 P3.2/~{INT0} (io), 15 P3.3/~{INT1} (io), 16 P3.4/T0 (io), 17 P3.5/T1 (io), 18 P3.6/~{WR} (io), 19 P3.7/~{RD} (io), 20 XTAL2 (out), 21 XTAL1 (in), 24 A8(P2.0) (io), 25 A9(P2.1) (io), 26 A10(P2.2) (io), 27 A11(P2.3) (io), 28 A12(P2.4) (io), 29 A13(P2.5) (io), 30 A14(P2.6) (io), 31 A15(P2.7) (io), 32 ~{PSEN} (out), 33 ALE (out), 34 NC, 35 ~{EA} (in), 36 AD7 (io), 37 AD6 (io), 38 AD5 (io), 39 AD4 (io), 40 AD3 (io), 41 AD2 (io), 42 AD1 (io), 43 AD0 (io)
part B pins: 22 GND (power), 23 GND (power), 44 VCC (power)

## DS80C320-QCG+
designator U?
8-bit High-Speed/Low-Power Microcontroller, 25 MHz Max. Clock Speed, 44-pin PLCC, 0° to + 70° C, Pb-Free; DatasheetVersion: 1/05/2009; PackageVersion: revE, 2009; PackageReference: Q44+1; PackageDescription: 44-Pin Plastic Leaded Chip Carrier 1.27 mm Pitch, PLCC, Pb-Free; Code_JEDEC: MO-047-AC; Code_IPC: PLCC-44; ComponentLink1Description: Manufacturer URL; ComponentLink1URL: www.maxim-ic.com; ComponentLink2Description: Datasheet; ComponentLink2URL: http://datasheets.maxim-ic.com/en/ds/DS80C320-DS80C323.pdf
footprint Q44+1_N (Leaded Chip Carrier, 44-Leads, Body 16.6x16.6mm, Pitch 1.27mm, IPC Medium Density)
footprint Q44+1_L (Leaded Chip Carrier, 44-Leads, Body 16.6x16.6mm, Pitch 1.27mm, IPC High Density)
footprint Q44+1_M (Leaded Chip Carrier, 44-Leads, Body 16.6x16.6mm, Pitch 1.27mm, IPC Low Density)
part A pins: 1 NC, 2 P1.0/T2 (io), 3 P1.1/T2EX (io), 4 P1.2/RXD1 (io), 5 P1.3/TXD1 (io), 6 P1.4/INT2 (io), 7 P1.5/~{INT3} (io), 8 P1.6/INT4 (io), 9 P1.7/~{INT5} (io), 10 RST (in), 11 P3.0/RXD0 (io), 12 NC, 13 P3.1/TXD0 (io), 14 P3.2/~{INT0} (io), 15 P3.3/~{INT1} (io), 16 P3.4/T0 (io), 17 P3.5/T1 (io), 18 P3.6/~{WR} (io), 19 P3.7/~{RD} (io), 20 XTAL2 (out), 21 XTAL1 (in), 24 A8(P2.0) (io), 25 A9(P2.1) (io), 26 A10(P2.2) (io), 27 A11(P2.3) (io), 28 A12(P2.4) (io), 29 A13(P2.5) (io), 30 A14(P2.6) (io), 31 A15(P2.7) (io), 32 ~{PSEN} (out), 33 ALE (out), 34 NC, 35 ~{EA} (in), 36 AD7 (io), 37 AD6 (io), 38 AD5 (io), 39 AD4 (io), 40 AD3 (io), 41 AD2 (io), 42 AD1 (io), 43 AD0 (io)
part B pins: 22 GND (power), 23 GND (power), 44 VCC (power)

## DS80C320-QCL
designator U?
8-bit High-Speed/Low-Power Microcontroller, 33 MHz Max. Clock Speed, 44-pin PLCC, 0° to + 70° C; DatasheetVersion: 1/05/2009; PackageVersion: revE, 2009; PackageReference: Q44-1; PackageDescription: 44-Pin Plastic Leaded Chip Carrier 1.27 mm Pitch, PLCC; Code_JEDEC: MO-047-AC; Code_IPC: PLCC-44; ComponentLink1Description: Manufacturer URL; ComponentLink1URL: www.maxim-ic.com; ComponentLink2Description: Datasheet; ComponentLink2URL: http://datasheets.maxim-ic.com/en/ds/DS80C320-DS80C323.pdf
footprint Q44-1_N (Leaded Chip Carrier, 44-Leads, Body 16.6x16.6mm, Pitch 1.27mm, IPC Medium Density)
footprint Q44-1_L (Leaded Chip Carrier, 44-Leads, Body 16.6x16.6mm, Pitch 1.27mm, IPC High Density)
footprint Q44-1_M (Leaded Chip Carrier, 44-Leads, Body 16.6x16.6mm, Pitch 1.27mm, IPC Low Density)
part A pins: 1 NC, 2 P1.0/T2 (io), 3 P1.1/T2EX (io), 4 P1.2/RXD1 (io), 5 P1.3/TXD1 (io), 6 P1.4/INT2 (io), 7 P1.5/~{INT3} (io), 8 P1.6/INT4 (io), 9 P1.7/~{INT5} (io), 10 RST (in), 11 P3.0/RXD0 (io), 12 NC, 13 P3.1/TXD0 (io), 14 P3.2/~{INT0} (io), 15 P3.3/~{INT1} (io), 16 P3.4/T0 (io), 17 P3.5/T1 (io), 18 P3.6/~{WR} (io), 19 P3.7/~{RD} (io), 20 XTAL2 (out), 21 XTAL1 (in), 24 A8(P2.0) (io), 25 A9(P2.1) (io), 26 A10(P2.2) (io), 27 A11(P2.3) (io), 28 A12(P2.4) (io), 29 A13(P2.5) (io), 30 A14(P2.6) (io), 31 A15(P2.7) (io), 32 ~{PSEN} (out), 33 ALE (out), 34 NC, 35 ~{EA} (in), 36 AD7 (io), 37 AD6 (io), 38 AD5 (io), 39 AD4 (io), 40 AD3 (io), 41 AD2 (io), 42 AD1 (io), 43 AD0 (io)
part B pins: 22 GND (power), 23 GND (power), 44 VCC (power)

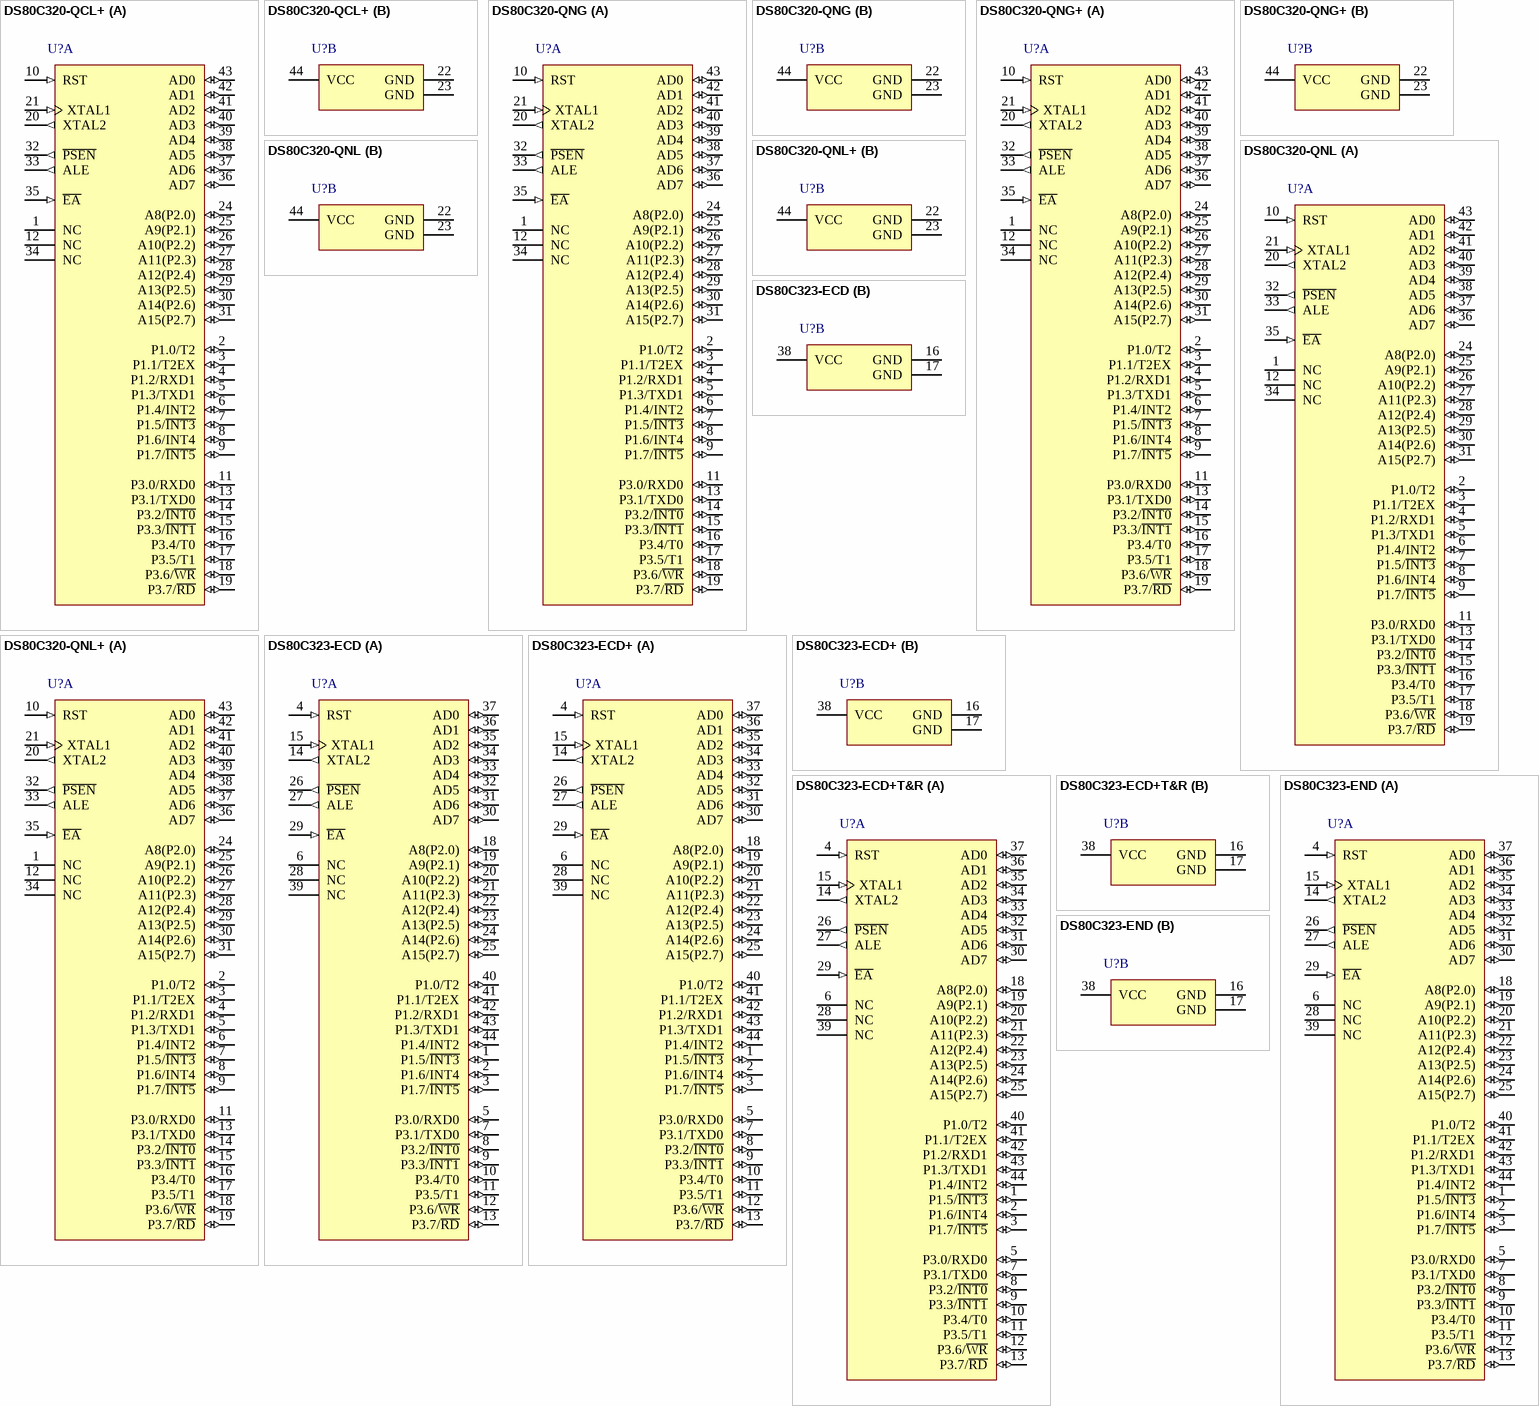
[diagram p3: symbols DS80C320-QCL+ to DS80C323-END]

## DS80C320-QCL+
designator U?
8-bit High-Speed/Low-Power Microcontroller, 33 MHz Max. Clock Speed, 44-pin PLCC, 0° to + 70° C, Pb-Free; DatasheetVersion: 1/05/2009; PackageVersion: revE, 2009; PackageReference: Q44+1; PackageDescription: 44-Pin Plastic Leaded Chip Carrier 1.27 mm Pitch, PLCC, Pb-Free; Code_JEDEC: MO-047-AC; Code_IPC: PLCC-44; ComponentLink1Description: Manufacturer URL; ComponentLink1URL: www.maxim-ic.com; ComponentLink2Description: Datasheet; ComponentLink2URL: http://datasheets.maxim-ic.com/en/ds/DS80C320-DS80C323.pdf
footprint Q44+1_N (Leaded Chip Carrier, 44-Leads, Body 16.6x16.6mm, Pitch 1.27mm, IPC Medium Density)
footprint Q44+1_L (Leaded Chip Carrier, 44-Leads, Body 16.6x16.6mm, Pitch 1.27mm, IPC High Density)
footprint Q44+1_M (Leaded Chip Carrier, 44-Leads, Body 16.6x16.6mm, Pitch 1.27mm, IPC Low Density)
part A pins: 1 NC, 2 P1.0/T2 (io), 3 P1.1/T2EX (io), 4 P1.2/RXD1 (io), 5 P1.3/TXD1 (io), 6 P1.4/INT2 (io), 7 P1.5/~{INT3} (io), 8 P1.6/INT4 (io), 9 P1.7/~{INT5} (io), 10 RST (in), 11 P3.0/RXD0 (io), 12 NC, 13 P3.1/TXD0 (io), 14 P3.2/~{INT0} (io), 15 P3.3/~{INT1} (io), 16 P3.4/T0 (io), 17 P3.5/T1 (io), 18 P3.6/~{WR} (io), 19 P3.7/~{RD} (io), 20 XTAL2 (out), 21 XTAL1 (in), 24 A8(P2.0) (io), 25 A9(P2.1) (io), 26 A10(P2.2) (io), 27 A11(P2.3) (io), 28 A12(P2.4) (io), 29 A13(P2.5) (io), 30 A14(P2.6) (io), 31 A15(P2.7) (io), 32 ~{PSEN} (out), 33 ALE (out), 34 NC, 35 ~{EA} (in), 36 AD7 (io), 37 AD6 (io), 38 AD5 (io), 39 AD4 (io), 40 AD3 (io), 41 AD2 (io), 42 AD1 (io), 43 AD0 (io)
part B pins: 22 GND (power), 23 GND (power), 44 VCC (power)

## DS80C320-QNG
designator U?
8-bit High-Speed/Low-Power Microcontroller, 25 MHz Max. Clock Speed, 44-pin PLCC, -40° to + 85° C; DatasheetVersion: 1/05/2009; PackageVersion: revE, 2009; PackageReference: Q44-1; PackageDescription: 44-Pin Plastic Leaded Chip Carrier 1.27 mm Pitch, PLCC; Code_JEDEC: MO-047-AC; Code_IPC: PLCC-44; ComponentLink1Description: Manufacturer URL; ComponentLink1URL: www.maxim-ic.com; ComponentLink2Description: Datasheet; ComponentLink2URL: http://datasheets.maxim-ic.com/en/ds/DS80C320-DS80C323.pdf
footprint Q44-1_N (Leaded Chip Carrier, 44-Leads, Body 16.6x16.6mm, Pitch 1.27mm, IPC Medium Density)
footprint Q44-1_L (Leaded Chip Carrier, 44-Leads, Body 16.6x16.6mm, Pitch 1.27mm, IPC High Density)
footprint Q44-1_M (Leaded Chip Carrier, 44-Leads, Body 16.6x16.6mm, Pitch 1.27mm, IPC Low Density)
part A pins: 1 NC, 2 P1.0/T2 (io), 3 P1.1/T2EX (io), 4 P1.2/RXD1 (io), 5 P1.3/TXD1 (io), 6 P1.4/INT2 (io), 7 P1.5/~{INT3} (io), 8 P1.6/INT4 (io), 9 P1.7/~{INT5} (io), 10 RST (in), 11 P3.0/RXD0 (io), 12 NC, 13 P3.1/TXD0 (io), 14 P3.2/~{INT0} (io), 15 P3.3/~{INT1} (io), 16 P3.4/T0 (io), 17 P3.5/T1 (io), 18 P3.6/~{WR} (io), 19 P3.7/~{RD} (io), 20 XTAL2 (out), 21 XTAL1 (in), 24 A8(P2.0) (io), 25 A9(P2.1) (io), 26 A10(P2.2) (io), 27 A11(P2.3) (io), 28 A12(P2.4) (io), 29 A13(P2.5) (io), 30 A14(P2.6) (io), 31 A15(P2.7) (io), 32 ~{PSEN} (out), 33 ALE (out), 34 NC, 35 ~{EA} (in), 36 AD7 (io), 37 AD6 (io), 38 AD5 (io), 39 AD4 (io), 40 AD3 (io), 41 AD2 (io), 42 AD1 (io), 43 AD0 (io)
part B pins: 22 GND (power), 23 GND (power), 44 VCC (power)

## DS80C320-QNG+
designator U?
8-bit High-Speed/Low-Power Microcontroller, 25 MHz Max. Clock Speed, 44-pin PLCC, -40° to + 85° C, Pb-Free; DatasheetVersion: 1/05/2009; PackageVersion: revE, 2009; PackageReference: Q44+1; PackageDescription: 44-Pin Plastic Leaded Chip Carrier 1.27 mm Pitch, PLCC, Pb-Free; Code_JEDEC: MO-047-AC; Code_IPC: PLCC-44; ComponentLink1Description: Manufacturer URL; ComponentLink1URL: www.maxim-ic.com; ComponentLink2Description: Datasheet; ComponentLink2URL: http://datasheets.maxim-ic.com/en/ds/DS80C320-DS80C323.pdf
footprint Q44+1_N (Leaded Chip Carrier, 44-Leads, Body 16.6x16.6mm, Pitch 1.27mm, IPC Medium Density)
footprint Q44+1_L (Leaded Chip Carrier, 44-Leads, Body 16.6x16.6mm, Pitch 1.27mm, IPC High Density)
footprint Q44+1_M (Leaded Chip Carrier, 44-Leads, Body 16.6x16.6mm, Pitch 1.27mm, IPC Low Density)
part A pins: 1 NC, 2 P1.0/T2 (io), 3 P1.1/T2EX (io), 4 P1.2/RXD1 (io), 5 P1.3/TXD1 (io), 6 P1.4/INT2 (io), 7 P1.5/~{INT3} (io), 8 P1.6/INT4 (io), 9 P1.7/~{INT5} (io), 10 RST (in), 11 P3.0/RXD0 (io), 12 NC, 13 P3.1/TXD0 (io), 14 P3.2/~{INT0} (io), 15 P3.3/~{INT1} (io), 16 P3.4/T0 (io), 17 P3.5/T1 (io), 18 P3.6/~{WR} (io), 19 P3.7/~{RD} (io), 20 XTAL2 (out), 21 XTAL1 (in), 24 A8(P2.0) (io), 25 A9(P2.1) (io), 26 A10(P2.2) (io), 27 A11(P2.3) (io), 28 A12(P2.4) (io), 29 A13(P2.5) (io), 30 A14(P2.6) (io), 31 A15(P2.7) (io), 32 ~{PSEN} (out), 33 ALE (out), 34 NC, 35 ~{EA} (in), 36 AD7 (io), 37 AD6 (io), 38 AD5 (io), 39 AD4 (io), 40 AD3 (io), 41 AD2 (io), 42 AD1 (io), 43 AD0 (io)
part B pins: 22 GND (power), 23 GND (power), 44 VCC (power)

## DS80C320-QNL
designator U?
8-bit High-Speed/Low-Power Microcontroller, 33 MHz Max. Clock Speed, 44-pin PLCC, -40° to + 85° C; DatasheetVersion: 1/05/2009; PackageVersion: revE, 2009; PackageReference: Q44-1; PackageDescription: 44-Pin Plastic Leaded Chip Carrier 1.27 mm Pitch, PLCC; Code_JEDEC: MO-047-AC; Code_IPC: PLCC-44; ComponentLink1Description: Manufacturer URL; ComponentLink1URL: www.maxim-ic.com; ComponentLink2Description: Datasheet; ComponentLink2URL: http://datasheets.maxim-ic.com/en/ds/DS80C320-DS80C323.pdf
footprint Q44-1_N (Leaded Chip Carrier, 44-Leads, Body 16.6x16.6mm, Pitch 1.27mm, IPC Medium Density)
footprint Q44-1_L (Leaded Chip Carrier, 44-Leads, Body 16.6x16.6mm, Pitch 1.27mm, IPC High Density)
footprint Q44-1_M (Leaded Chip Carrier, 44-Leads, Body 16.6x16.6mm, Pitch 1.27mm, IPC Low Density)
part A pins: 1 NC, 2 P1.0/T2 (io), 3 P1.1/T2EX (io), 4 P1.2/RXD1 (io), 5 P1.3/TXD1 (io), 6 P1.4/INT2 (io), 7 P1.5/~{INT3} (io), 8 P1.6/INT4 (io), 9 P1.7/~{INT5} (io), 10 RST (in), 11 P3.0/RXD0 (io), 12 NC, 13 P3.1/TXD0 (io), 14 P3.2/~{INT0} (io), 15 P3.3/~{INT1} (io), 16 P3.4/T0 (io), 17 P3.5/T1 (io), 18 P3.6/~{WR} (io), 19 P3.7/~{RD} (io), 20 XTAL2 (out), 21 XTAL1 (in), 24 A8(P2.0) (io), 25 A9(P2.1) (io), 26 A10(P2.2) (io), 27 A11(P2.3) (io), 28 A12(P2.4) (io), 29 A13(P2.5) (io), 30 A14(P2.6) (io), 31 A15(P2.7) (io), 32 ~{PSEN} (out), 33 ALE (out), 34 NC, 35 ~{EA} (in), 36 AD7 (io), 37 AD6 (io), 38 AD5 (io), 39 AD4 (io), 40 AD3 (io), 41 AD2 (io), 42 AD1 (io), 43 AD0 (io)
part B pins: 22 GND (power), 23 GND (power), 44 VCC (power)

## DS80C320-QNL+
designator U?
8-bit High-Speed/Low-Power Microcontroller, 33 MHz Max. Clock Speed, 44-pin PLCC, -40° to + 85° C, Pb-Free; DatasheetVersion: 1/05/2009; PackageVersion: revE, 2009; PackageReference: Q44+1; PackageDescription: 44-Pin Plastic Leaded Chip Carrier 1.27 mm Pitch, PLCC, Pb-Free; Code_JEDEC: MO-047-AC; Code_IPC: PLCC-44; ComponentLink1Description: Manufacturer URL; ComponentLink1URL: www.maxim-ic.com; ComponentLink2Description: Datasheet; ComponentLink2URL: http://datasheets.maxim-ic.com/en/ds/DS80C320-DS80C323.pdf
footprint Q44+1_N (Leaded Chip Carrier, 44-Leads, Body 16.6x16.6mm, Pitch 1.27mm, IPC Medium Density)
footprint Q44+1_L (Leaded Chip Carrier, 44-Leads, Body 16.6x16.6mm, Pitch 1.27mm, IPC High Density)
footprint Q44+1_M (Leaded Chip Carrier, 44-Leads, Body 16.6x16.6mm, Pitch 1.27mm, IPC Low Density)
part A pins: 1 NC, 2 P1.0/T2 (io), 3 P1.1/T2EX (io), 4 P1.2/RXD1 (io), 5 P1.3/TXD1 (io), 6 P1.4/INT2 (io), 7 P1.5/~{INT3} (io), 8 P1.6/INT4 (io), 9 P1.7/~{INT5} (io), 10 RST (in), 11 P3.0/RXD0 (io), 12 NC, 13 P3.1/TXD0 (io), 14 P3.2/~{INT0} (io), 15 P3.3/~{INT1} (io), 16 P3.4/T0 (io), 17 P3.5/T1 (io), 18 P3.6/~{WR} (io), 19 P3.7/~{RD} (io), 20 XTAL2 (out), 21 XTAL1 (in), 24 A8(P2.0) (io), 25 A9(P2.1) (io), 26 A10(P2.2) (io), 27 A11(P2.3) (io), 28 A12(P2.4) (io), 29 A13(P2.5) (io), 30 A14(P2.6) (io), 31 A15(P2.7) (io), 32 ~{PSEN} (out), 33 ALE (out), 34 NC, 35 ~{EA} (in), 36 AD7 (io), 37 AD6 (io), 38 AD5 (io), 39 AD4 (io), 40 AD3 (io), 41 AD2 (io), 42 AD1 (io), 43 AD0 (io)
part B pins: 22 GND (power), 23 GND (power), 44 VCC (power)

## DS80C323-ECD
designator U?
8-bit High-Speed/Low-Power Microcontroller, 18 MHz Max. Clock Speed, 44-pin TQFP, 0° to + 70° C; DatasheetVersion: 1/05/2009; PackageVersion: revB, 2010; PackageReference: C44-2; PackageDescription: 44-Pin Thin Quad Flatpack, 10 x 10 x 1.0 mm Body, 0.8 mm Pitch, TQFP; ComponentLink1Description: Manufacturer URL; ComponentLink1URL: www.maxim-ic.com; ComponentLink2Description: Datasheet; ComponentLink2URL: http://datasheets.maxim-ic.com/en/ds/DS80C320-DS80C323.pdf
footprint C44-2_N (Thin QFP, 44-Leads, Body 10x10mm, Pitch 0.8mm, IPC Medium Density)
footprint C44-2_L (Thin QFP, 44-Leads, Body 10x10mm, Pitch 0.8mm, IPC High Density)
footprint C44-2_M (Thin QFP, 44-Leads, Body 10x10mm, Pitch 0.8mm, IPC Low Density)
part A pins: 1 P1.5/~{INT3} (io), 2 P1.6/INT4 (io), 3 P1.7/~{INT5} (io), 4 RST (in), 5 P3.0/RXD0 (io), 6 NC, 7 P3.1/TXD0 (io), 8 P3.2/~{INT0} (io), 9 P3.3/~{INT1} (io), 10 P3.4/T0 (io), 11 P3.5/T1 (io), 12 P3.6/~{WR} (io), 13 P3.7/~{RD} (io), 14 XTAL2 (out), 15 XTAL1 (in), 18 A8(P2.0) (io), 19 A9(P2.1) (io), 20 A10(P2.2) (io), 21 A11(P2.3) (io), 22 A12(P2.4) (io), 23 A13(P2.5) (io), 24 A14(P2.6) (io), 25 A15(P2.7) (io), 26 ~{PSEN} (out), 27 ALE (out), 28 NC, 29 ~{EA} (in), 30 AD7 (io), 31 AD6 (io), 32 AD5 (io), 33 AD4 (io), 34 AD3 (io), 35 AD2 (io), 36 AD1 (io), 37 AD0 (io), 39 NC, 40 P1.0/T2 (io), 41 P1.1/T2EX (io), 42 P1.2/RXD1 (io), 43 P1.3/TXD1 (io), 44 P1.4/INT2 (io)
part B pins: 16 GND (power), 17 GND (power), 38 VCC (power)